# Altium integrated library ST Microcontroller 8-Bit.IntLib: 1326 symbols (part 31 of 45)
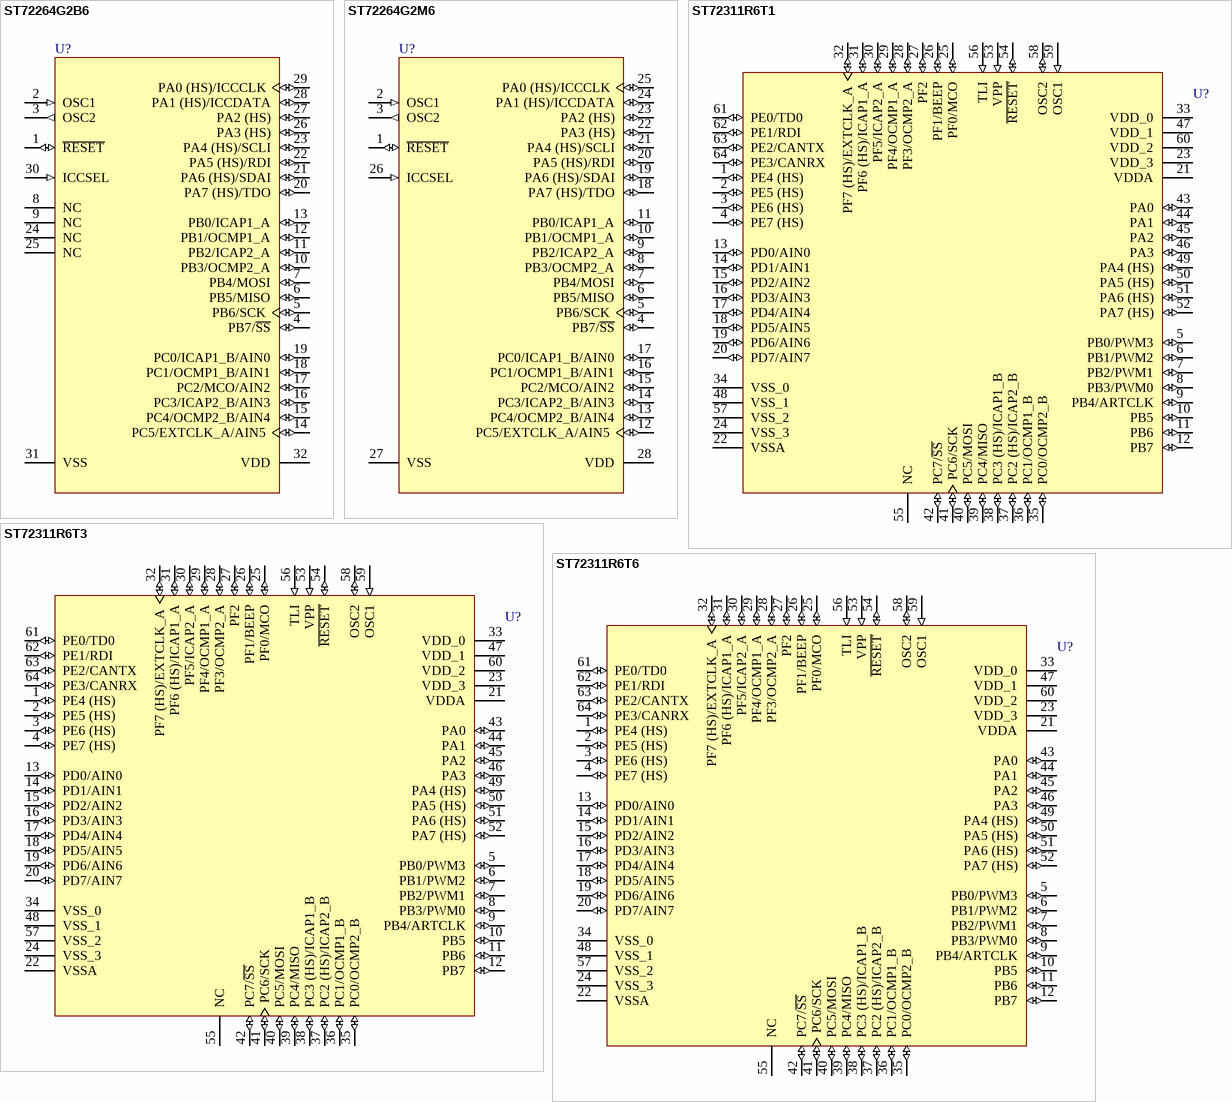
[diagram p197: symbols ST72264G2B6 to ST72311R6T6]

## ST72264G2B6
designator U?
8-Bit MCU with 8k ROM Memory, 256b RAM, ADC, 16-Bit Timers, WDG, RTC, I²C, SPI and SCI Interfaces, 32-Pin PDIP, Industrial; Published: 26-May-2004; LatestRevisionDate: 06-Jun-2005; LatestRevisionNote: Stylized 3D Model Added.; DatasheetVersion: rev1.8, Nov-2003; PackageVersion: rev1.7, Oct-2001; PackageReference: PSDIP32; Publisher: Altium Limited; PackageDescription: DIP, Plastic Shrink; 32 Leads; Row Spacing 10.16 mm; Pitch 1.78 mm; ComponentLink1Description: Manufacturer Link; ComponentLink1URL: http://www.st.com/; ComponentLink2Description: Datasheet; ComponentLink2URL: http://www.st.com/stonline/products/literature/ds/8347/st72264g.pdf
footprint PSDIP32 (DIP, Plastic Shrink; 32 Leads; Row Spacing 10.16 mm; Pitch 1.78 mm)
3D model PSDIP32 (DIP, Plastic Shrink; 32 Leads; Row Spacing 10.16 mm; Pitch 1.78 mm)
pins: 1 ~{RESET} (io), 2 OSC1 (in), 3 OSC2 (out), 4 PB7/~{SS} (io), 5 PB6/SCK (io), 6 PB5/MISO (io), 7 PB4/MOSI (io), 8 NC, 9 NC, 10 PB3/OCMP2_A (io), 11 PB2/ICAP2_A (io), 12 PB1/OCMP1_A (io), 13 PB0/ICAP1_A (io), 14 PC5/EXTCLK_A/AIN5 (io), 15 PC4/OCMP2_B/AIN4 (io), 16 PC3/ICAP2_B/AIN3 (io), 17 PC2/MCO/AIN2 (io), 18 PC1/OCMP1_B/AIN1 (io), 19 PC0/ICAP1_B/AIN0 (io), 20 PA7 (HS)/TDO (io), 21 PA6 (HS)/SDAI (io), 22 PA5 (HS)/RDI (io), 23 PA4 (HS)/SCLI (io), 24 NC, 25 NC, 26 PA3 (HS) (io), 27 PA2 (HS) (io), 28 PA1 (HS)/ICCDATA (io), 29 PA0 (HS)/ICCCLK (io), 30 ICCSEL (in), 31 VSS (power), 32 VDD (power)

## ST72264G2M6
designator U?
8-Bit MCU with 8k ROM Memory, 256b RAM, ADC, 16-Bit Timers, WDG, RTC, I²C, SPI and SCI Interfaces, 28-Pin SOIC, Industrial; Published: 26-May-2004; LatestRevisionDate: 13-Apr-2006; LatestRevisionNote: IPC-7351 Footprint Added.; DatasheetVersion: rev1.8, Nov-2003; PackageVersion: Jul-2001; PackageReference: SO28; Publisher: Altium Limited; PackageDescription: 28-Pin Plastic Small Outline Integrated Circuit 1.27 mm Pitch; ComponentLink1Description: Manufacturer Link; ComponentLink1URL: http://www.st.com/; ComponentLink2Description: Datasheet; ComponentLink2URL: http://www.st.com/stonline/products/literature/ds/8347/st72264g.pdf
footprint SO28_N (SOIC, 28-Leads, Body 17.9x7.5mm, Pitch 1.27mm, IPC Medium Density)
footprint SO28_L (SOIC, 28-Leads, Body 17.9x7.5mm, Pitch 1.27mm, IPC High Density)
footprint SO28_M (SOIC, 28-Leads, Body 17.9x7.5mm, Pitch 1.27mm, IPC Low Density)
3D model SO28 (28-Pin Plastic Small Outline Integrated Circuit 1.27 mm Pitch)
pins: 1 ~{RESET} (io), 2 OSC1 (in), 3 OSC2 (out), 4 PB7/~{SS} (io), 5 PB6/SCK (io), 6 PB5/MISO (io), 7 PB4/MOSI (io), 8 PB3/OCMP2_A (io), 9 PB2/ICAP2_A (io), 10 PB1/OCMP1_A (io), 11 PB0/ICAP1_A (io), 12 PC5/EXTCLK_A/AIN5 (io), 13 PC4/OCMP2_B/AIN4 (io), 14 PC3/ICAP2_B/AIN3 (io), 15 PC2/MCO/AIN2 (io), 16 PC1/OCMP1_B/AIN1 (io), 17 PC0/ICAP1_B/AIN0 (io), 18 PA7 (HS)/TDO (io), 19 PA6 (HS)/SDAI (io), 20 PA5 (HS)/RDI (io), 21 PA4 (HS)/SCLI (io), 22 PA3 (HS) (io), 23 PA2 (HS) (io), 24 PA1 (HS)/ICCDATA (io), 25 PA0 (HS)/ICCCLK (io), 26 ICCSEL (in), 27 VSS (power), 28 VDD (power)

## ST72311R6T1
designator U?
8-Bit 32k ROM MCU with Nested Interrupts, 1024b RAM, ADC, 16-Bit Timers, 8-Bit PWM ART, SPI and SCI Interfaces, 64-Pin TQFP, Standard; Note: Pins 5-12, 25-27 and 43-46 are External Interrupt (EI) pins.; Published: 26-May-2004; LatestRevisionDate: 13-Apr-2006; LatestRevisionNote: IPC-7351 Footprint Added.; DatasheetVersion: rev2.7, Apr-2003; PackageVersion: rev2.4, Jan-2002; PackageReference: TQFP64-0.8; Publisher: Altium Limited; PackageDescription: 64-Pin Thin Quad Flat Pack 0.8 mm Pitch; ComponentLink1Description: Manufacturer Link; ComponentLink1URL: http://www.st.com/; ComponentLink2Description: Datasheet; ComponentLink2URL: http://www.st.com/stonline/products/literature/ds/6810/st72311r6.pdf
footprint TQFP64-0.8_N (Thin QFP, 64-Leads, Body 14x14mm, Pitch 0.8mm, IPC Medium Density)
footprint TQFP64-0.8_L (Thin QFP, 64-Leads, Body 14x14mm, Pitch 0.8mm, IPC High Density)
footprint TQFP64-0.8_M (Thin QFP, 64-Leads, Body 14x14mm, Pitch 0.8mm, IPC Low Density)
3D model ST72311-TQFP64-0_8 (64-Pin Thin Quad Flat Pack 0.8 mm Pitch)
pins: 1 PE4 (HS) (io), 2 PE5 (HS) (io), 3 PE6 (HS) (io), 4 PE7 (HS) (io), 5 PB0/PWM3 (io), 6 PB1/PWM2 (io), 7 PB2/PWM1 (io), 8 PB3/PWM0 (io), 9 PB4/ARTCLK (io), 10 PB5 (io), 11 PB6 (io), 12 PB7 (io), 13 PD0/AIN0 (io), 14 PD1/AIN1 (io), 15 PD2/AIN2 (io), 16 PD3/AIN3 (io), 17 PD4/AIN4 (io), 18 PD5/AIN5 (io), 19 PD6/AIN6 (io), 20 PD7/AIN7 (io), 21 VDDA (power), 22 VSSA (power), 23 VDD_3 (power), 24 VSS_3 (power), 25 PF0/MCO (io), 26 PF1/BEEP (io), 27 PF2 (io), 28 PF3/OCMP2_A (io), 29 PF4/OCMP1_A (io), 30 PF5/ICAP2_A (io), 31 PF6 (HS)/ICAP1_A (io), 32 PF7 (HS)/EXTCLK_A (io), 33 VDD_0 (power), 34 VSS_0 (power), 35 PC0/OCMP2_B (io), 36 PC1/OCMP1_B (io), 37 PC2 (HS)/ICAP2_B (io), 38 PC3 (HS)/ICAP1_B (io), 39 PC4/MISO (io), 40 PC5/MOSI (io), 41 PC6/SCK (io), 42 PC7/~{SS} (io), 43 PA0 (io), 44 PA1 (io), 45 PA2 (io), 46 PA3 (io), 47 VDD_1 (power), 48 VSS_1 (power), 49 PA4 (HS) (io), 50 PA5 (HS) (io), 51 PA6 (HS) (io), 52 PA7 (HS) (io), 53 VPP (in), 54 ~{RESET} (io), 55 NC, 56 TLI (in), 57 VSS_2 (power), 58 OSC2 (io), 59 OSC1 (in), 60 VDD_2 (power), 61 PE0/TD0 (io), 62 PE1/RDI (io), 63 PE2/CANTX (io), 64 PE3/CANRX (io)

## ST72311R6T3
designator U?
8-Bit 32k ROM MCU with Nested Interrupts, 1024b RAM, ADC, 16-Bit Timers, 8-Bit PWM ART, SPI and SCI Interfaces, 64-Pin TQFP, Automotive; Note: Pins 5-12, 25-27 and 43-46 are External Interrupt (EI) pins.; Published: 26-May-2004; LatestRevisionDate: 13-Apr-2006; LatestRevisionNote: IPC-7351 Footprint Added.; DatasheetVersion: rev2.7, Apr-2003; PackageVersion: rev2.4, Jan-2002; PackageReference: TQFP64-0.8; Publisher: Altium Limited; PackageDescription: 64-Pin Thin Quad Flat Pack 0.8 mm Pitch; ComponentLink1Description: Manufacturer Link; ComponentLink1URL: http://www.st.com/; ComponentLink2Description: Datasheet; ComponentLink2URL: http://www.st.com/stonline/products/literature/ds/6810/st72311r6.pdf
footprint TQFP64-0.8_N (Thin QFP, 64-Leads, Body 14x14mm, Pitch 0.8mm, IPC Medium Density)
footprint TQFP64-0.8_L (Thin QFP, 64-Leads, Body 14x14mm, Pitch 0.8mm, IPC High Density)
footprint TQFP64-0.8_M (Thin QFP, 64-Leads, Body 14x14mm, Pitch 0.8mm, IPC Low Density)
3D model ST72311-TQFP64-0_8 (64-Pin Thin Quad Flat Pack 0.8 mm Pitch)
pins: 1 PE4 (HS) (io), 2 PE5 (HS) (io), 3 PE6 (HS) (io), 4 PE7 (HS) (io), 5 PB0/PWM3 (io), 6 PB1/PWM2 (io), 7 PB2/PWM1 (io), 8 PB3/PWM0 (io), 9 PB4/ARTCLK (io), 10 PB5 (io), 11 PB6 (io), 12 PB7 (io), 13 PD0/AIN0 (io), 14 PD1/AIN1 (io), 15 PD2/AIN2 (io), 16 PD3/AIN3 (io), 17 PD4/AIN4 (io), 18 PD5/AIN5 (io), 19 PD6/AIN6 (io), 20 PD7/AIN7 (io), 21 VDDA (power), 22 VSSA (power), 23 VDD_3 (power), 24 VSS_3 (power), 25 PF0/MCO (io), 26 PF1/BEEP (io), 27 PF2 (io), 28 PF3/OCMP2_A (io), 29 PF4/OCMP1_A (io), 30 PF5/ICAP2_A (io), 31 PF6 (HS)/ICAP1_A (io), 32 PF7 (HS)/EXTCLK_A (io), 33 VDD_0 (power), 34 VSS_0 (power), 35 PC0/OCMP2_B (io), 36 PC1/OCMP1_B (io), 37 PC2 (HS)/ICAP2_B (io), 38 PC3 (HS)/ICAP1_B (io), 39 PC4/MISO (io), 40 PC5/MOSI (io), 41 PC6/SCK (io), 42 PC7/~{SS} (io), 43 PA0 (io), 44 PA1 (io), 45 PA2 (io), 46 PA3 (io), 47 VDD_1 (power), 48 VSS_1 (power), 49 PA4 (HS) (io), 50 PA5 (HS) (io), 51 PA6 (HS) (io), 52 PA7 (HS) (io), 53 VPP (in), 54 ~{RESET} (io), 55 NC, 56 TLI (in), 57 VSS_2 (power), 58 OSC2 (io), 59 OSC1 (in), 60 VDD_2 (power), 61 PE0/TD0 (io), 62 PE1/RDI (io), 63 PE2/CANTX (io), 64 PE3/CANRX (io)

## ST72311R6T6
designator U?
8-Bit 32k ROM MCU with Nested Interrupts, 1024b RAM, ADC, 16-Bit Timers, 8-Bit PWM ART, SPI and SCI Interfaces, 64-Pin TQFP, Industrial; Note: Pins 5-12, 25-27 and 43-46 are External Interrupt (EI) pins.; Published: 26-May-2004; LatestRevisionDate: 13-Apr-2006; LatestRevisionNote: IPC-7351 Footprint Added.; DatasheetVersion: rev2.7, Apr-2003; PackageVersion: rev2.4, Jan-2002; PackageReference: TQFP64-0.8; Publisher: Altium Limited; PackageDescription: 64-Pin Thin Quad Flat Pack 0.8 mm Pitch; ComponentLink1Description: Manufacturer Link; ComponentLink1URL: http://www.st.com/; ComponentLink2Description: Datasheet; ComponentLink2URL: http://www.st.com/stonline/products/literature/ds/6810/st72311r6.pdf
footprint TQFP64-0.8_N (Thin QFP, 64-Leads, Body 14x14mm, Pitch 0.8mm, IPC Medium Density)
footprint TQFP64-0.8_L (Thin QFP, 64-Leads, Body 14x14mm, Pitch 0.8mm, IPC High Density)
footprint TQFP64-0.8_M (Thin QFP, 64-Leads, Body 14x14mm, Pitch 0.8mm, IPC Low Density)
3D model ST72311-TQFP64-0_8 (64-Pin Thin Quad Flat Pack 0.8 mm Pitch)
pins: 1 PE4 (HS) (io), 2 PE5 (HS) (io), 3 PE6 (HS) (io), 4 PE7 (HS) (io), 5 PB0/PWM3 (io), 6 PB1/PWM2 (io), 7 PB2/PWM1 (io), 8 PB3/PWM0 (io), 9 PB4/ARTCLK (io), 10 PB5 (io), 11 PB6 (io), 12 PB7 (io), 13 PD0/AIN0 (io), 14 PD1/AIN1 (io), 15 PD2/AIN2 (io), 16 PD3/AIN3 (io), 17 PD4/AIN4 (io), 18 PD5/AIN5 (io), 19 PD6/AIN6 (io), 20 PD7/AIN7 (io), 21 VDDA (power), 22 VSSA (power), 23 VDD_3 (power), 24 VSS_3 (power), 25 PF0/MCO (io), 26 PF1/BEEP (io), 27 PF2 (io), 28 PF3/OCMP2_A (io), 29 PF4/OCMP1_A (io), 30 PF5/ICAP2_A (io), 31 PF6 (HS)/ICAP1_A (io), 32 PF7 (HS)/EXTCLK_A (io), 33 VDD_0 (power), 34 VSS_0 (power), 35 PC0/OCMP2_B (io), 36 PC1/OCMP1_B (io), 37 PC2 (HS)/ICAP2_B (io), 38 PC3 (HS)/ICAP1_B (io), 39 PC4/MISO (io), 40 PC5/MOSI (io), 41 PC6/SCK (io), 42 PC7/~{SS} (io), 43 PA0 (io), 44 PA1 (io), 45 PA2 (io), 46 PA3 (io), 47 VDD_1 (power), 48 VSS_1 (power), 49 PA4 (HS) (io), 50 PA5 (HS) (io), 51 PA6 (HS) (io), 52 PA7 (HS) (io), 53 VPP (in), 54 ~{RESET} (io), 55 NC, 56 TLI (in), 57 VSS_2 (power), 58 OSC2 (io), 59 OSC1 (in), 60 VDD_2 (power), 61 PE0/TD0 (io), 62 PE1/RDI (io), 63 PE2/CANTX (io), 64 PE3/CANRX (io)

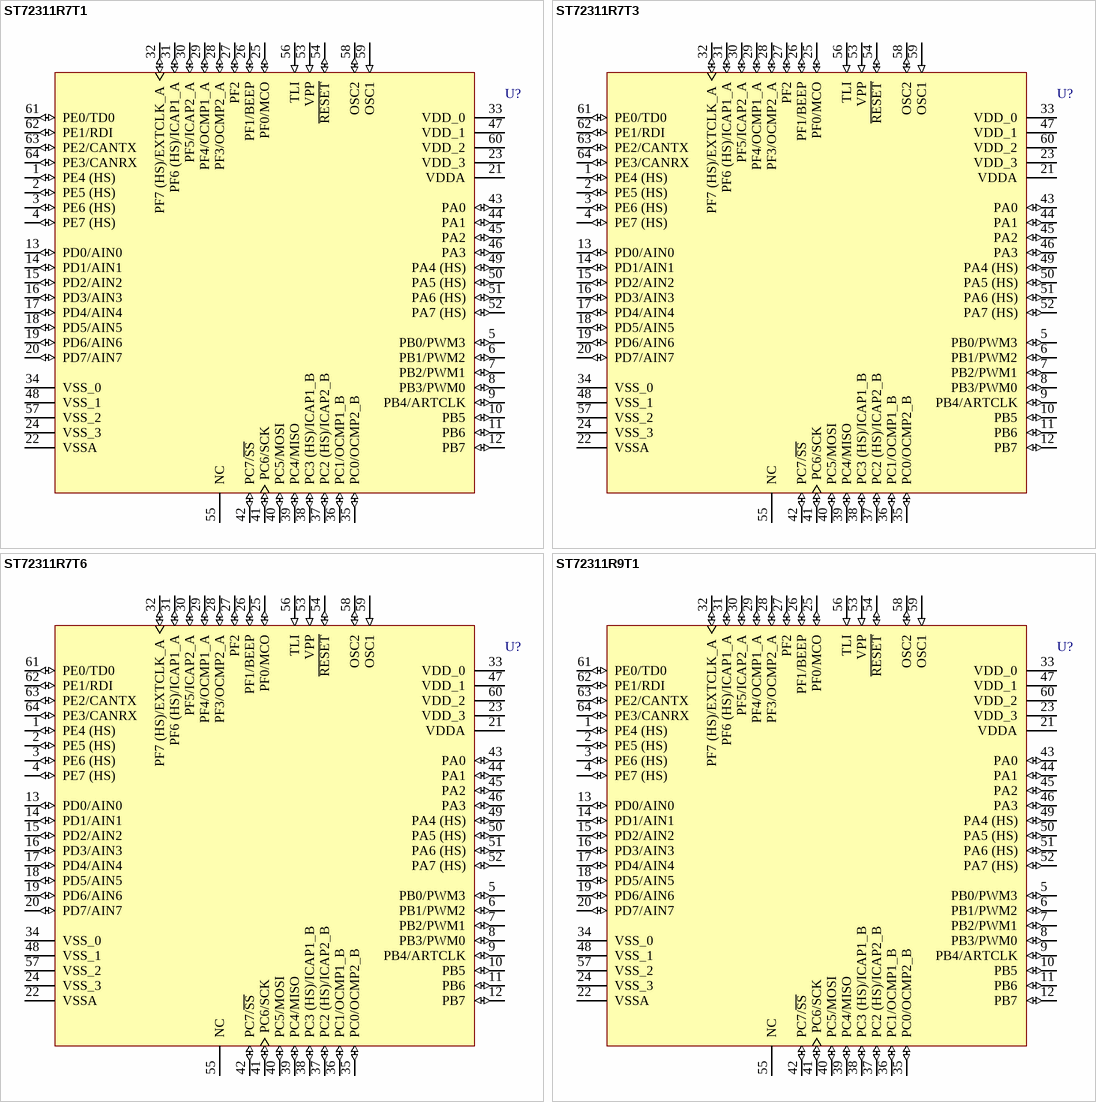
[diagram p104: symbols ST72311R7T1 to ST72311R9T1]

## ST72311R7T1
designator U?
8-Bit 48k ROM MCU with Nested Interrupts, 1536b RAM, ADC, 16-Bit Timers, 8-Bit PWM ART, SPI and SCI Interfaces, 64-Pin TQFP, Standard; Note: Pins 5-12, 25-27 and 43-46 are External Interrupt (EI) pins.; Published: 26-May-2004; LatestRevisionDate: 13-Apr-2006; LatestRevisionNote: IPC-7351 Footprint Added.; DatasheetVersion: rev2.7, Apr-2003; PackageVersion: rev2.4, Jan-2002; PackageReference: TQFP64-0.8; Publisher: Altium Limited; PackageDescription: 64-Pin Thin Quad Flat Pack 0.8 mm Pitch; ComponentLink1Description: Manufacturer Link; ComponentLink1URL: http://www.st.com/; ComponentLink2Description: Datasheet; ComponentLink2URL: http://www.st.com/stonline/products/literature/ds/6810/st72311r7.pdf
footprint TQFP64-0.8_N (Thin QFP, 64-Leads, Body 14x14mm, Pitch 0.8mm, IPC Medium Density)
footprint TQFP64-0.8_L (Thin QFP, 64-Leads, Body 14x14mm, Pitch 0.8mm, IPC High Density)
footprint TQFP64-0.8_M (Thin QFP, 64-Leads, Body 14x14mm, Pitch 0.8mm, IPC Low Density)
3D model ST72311-TQFP64-0_8 (64-Pin Thin Quad Flat Pack 0.8 mm Pitch)
pins: 1 PE4 (HS) (io), 2 PE5 (HS) (io), 3 PE6 (HS) (io), 4 PE7 (HS) (io), 5 PB0/PWM3 (io), 6 PB1/PWM2 (io), 7 PB2/PWM1 (io), 8 PB3/PWM0 (io), 9 PB4/ARTCLK (io), 10 PB5 (io), 11 PB6 (io), 12 PB7 (io), 13 PD0/AIN0 (io), 14 PD1/AIN1 (io), 15 PD2/AIN2 (io), 16 PD3/AIN3 (io), 17 PD4/AIN4 (io), 18 PD5/AIN5 (io), 19 PD6/AIN6 (io), 20 PD7/AIN7 (io), 21 VDDA (power), 22 VSSA (power), 23 VDD_3 (power), 24 VSS_3 (power), 25 PF0/MCO (io), 26 PF1/BEEP (io), 27 PF2 (io), 28 PF3/OCMP2_A (io), 29 PF4/OCMP1_A (io), 30 PF5/ICAP2_A (io), 31 PF6 (HS)/ICAP1_A (io), 32 PF7 (HS)/EXTCLK_A (io), 33 VDD_0 (power), 34 VSS_0 (power), 35 PC0/OCMP2_B (io), 36 PC1/OCMP1_B (io), 37 PC2 (HS)/ICAP2_B (io), 38 PC3 (HS)/ICAP1_B (io), 39 PC4/MISO (io), 40 PC5/MOSI (io), 41 PC6/SCK (io), 42 PC7/~{SS} (io), 43 PA0 (io), 44 PA1 (io), 45 PA2 (io), 46 PA3 (io), 47 VDD_1 (power), 48 VSS_1 (power), 49 PA4 (HS) (io), 50 PA5 (HS) (io), 51 PA6 (HS) (io), 52 PA7 (HS) (io), 53 VPP (in), 54 ~{RESET} (io), 55 NC, 56 TLI (in), 57 VSS_2 (power), 58 OSC2 (io), 59 OSC1 (in), 60 VDD_2 (power), 61 PE0/TD0 (io), 62 PE1/RDI (io), 63 PE2/CANTX (io), 64 PE3/CANRX (io)

## ST72311R7T3
designator U?
8-Bit 48k ROM MCU with Nested Interrupts, 1536b RAM, ADC, 16-Bit Timers, 8-Bit PWM ART, SPI and SCI Interfaces, 64-Pin TQFP, Automotive; Note: Pins 5-12, 25-27 and 43-46 are External Interrupt (EI) pins.; Published: 26-May-2004; LatestRevisionDate: 13-Apr-2006; LatestRevisionNote: IPC-7351 Footprint Added.; DatasheetVersion: rev2.7, Apr-2003; PackageVersion: rev2.4, Jan-2002; PackageReference: TQFP64-0.8; Publisher: Altium Limited; PackageDescription: 64-Pin Thin Quad Flat Pack 0.8 mm Pitch; ComponentLink1Description: Manufacturer Link; ComponentLink1URL: http://www.st.com/; ComponentLink2Description: Datasheet; ComponentLink2URL: http://www.st.com/stonline/products/literature/ds/6810/st72311r7.pdf
footprint TQFP64-0.8_N (Thin QFP, 64-Leads, Body 14x14mm, Pitch 0.8mm, IPC Medium Density)
footprint TQFP64-0.8_L (Thin QFP, 64-Leads, Body 14x14mm, Pitch 0.8mm, IPC High Density)
footprint TQFP64-0.8_M (Thin QFP, 64-Leads, Body 14x14mm, Pitch 0.8mm, IPC Low Density)
3D model ST72311-TQFP64-0_8 (64-Pin Thin Quad Flat Pack 0.8 mm Pitch)
pins: 1 PE4 (HS) (io), 2 PE5 (HS) (io), 3 PE6 (HS) (io), 4 PE7 (HS) (io), 5 PB0/PWM3 (io), 6 PB1/PWM2 (io), 7 PB2/PWM1 (io), 8 PB3/PWM0 (io), 9 PB4/ARTCLK (io), 10 PB5 (io), 11 PB6 (io), 12 PB7 (io), 13 PD0/AIN0 (io), 14 PD1/AIN1 (io), 15 PD2/AIN2 (io), 16 PD3/AIN3 (io), 17 PD4/AIN4 (io), 18 PD5/AIN5 (io), 19 PD6/AIN6 (io), 20 PD7/AIN7 (io), 21 VDDA (power), 22 VSSA (power), 23 VDD_3 (power), 24 VSS_3 (power), 25 PF0/MCO (io), 26 PF1/BEEP (io), 27 PF2 (io), 28 PF3/OCMP2_A (io), 29 PF4/OCMP1_A (io), 30 PF5/ICAP2_A (io), 31 PF6 (HS)/ICAP1_A (io), 32 PF7 (HS)/EXTCLK_A (io), 33 VDD_0 (power), 34 VSS_0 (power), 35 PC0/OCMP2_B (io), 36 PC1/OCMP1_B (io), 37 PC2 (HS)/ICAP2_B (io), 38 PC3 (HS)/ICAP1_B (io), 39 PC4/MISO (io), 40 PC5/MOSI (io), 41 PC6/SCK (io), 42 PC7/~{SS} (io), 43 PA0 (io), 44 PA1 (io), 45 PA2 (io), 46 PA3 (io), 47 VDD_1 (power), 48 VSS_1 (power), 49 PA4 (HS) (io), 50 PA5 (HS) (io), 51 PA6 (HS) (io), 52 PA7 (HS) (io), 53 VPP (in), 54 ~{RESET} (io), 55 NC, 56 TLI (in), 57 VSS_2 (power), 58 OSC2 (io), 59 OSC1 (in), 60 VDD_2 (power), 61 PE0/TD0 (io), 62 PE1/RDI (io), 63 PE2/CANTX (io), 64 PE3/CANRX (io)

## ST72311R7T6
designator U?
8-Bit 48k ROM MCU with Nested Interrupts, 1536b RAM, ADC, 16-Bit Timers, 8-Bit PWM ART, SPI and SCI Interfaces, 64-Pin TQFP, Industrial; Note: Pins 5-12, 25-27 and 43-46 are External Interrupt (EI) pins.; Published: 26-May-2004; LatestRevisionDate: 13-Apr-2006; LatestRevisionNote: IPC-7351 Footprint Added.; DatasheetVersion: rev2.7, Apr-2003; PackageVersion: rev2.4, Jan-2002; PackageReference: TQFP64-0.8; Publisher: Altium Limited; PackageDescription: 64-Pin Thin Quad Flat Pack 0.8 mm Pitch; ComponentLink1Description: Manufacturer Link; ComponentLink1URL: http://www.st.com/; ComponentLink2Description: Datasheet; ComponentLink2URL: http://www.st.com/stonline/products/literature/ds/6810/st72311r7.pdf
footprint TQFP64-0.8_N (Thin QFP, 64-Leads, Body 14x14mm, Pitch 0.8mm, IPC Medium Density)
footprint TQFP64-0.8_L (Thin QFP, 64-Leads, Body 14x14mm, Pitch 0.8mm, IPC High Density)
footprint TQFP64-0.8_M (Thin QFP, 64-Leads, Body 14x14mm, Pitch 0.8mm, IPC Low Density)
3D model ST72311-TQFP64-0_8 (64-Pin Thin Quad Flat Pack 0.8 mm Pitch)
pins: 1 PE4 (HS) (io), 2 PE5 (HS) (io), 3 PE6 (HS) (io), 4 PE7 (HS) (io), 5 PB0/PWM3 (io), 6 PB1/PWM2 (io), 7 PB2/PWM1 (io), 8 PB3/PWM0 (io), 9 PB4/ARTCLK (io), 10 PB5 (io), 11 PB6 (io), 12 PB7 (io), 13 PD0/AIN0 (io), 14 PD1/AIN1 (io), 15 PD2/AIN2 (io), 16 PD3/AIN3 (io), 17 PD4/AIN4 (io), 18 PD5/AIN5 (io), 19 PD6/AIN6 (io), 20 PD7/AIN7 (io), 21 VDDA (power), 22 VSSA (power), 23 VDD_3 (power), 24 VSS_3 (power), 25 PF0/MCO (io), 26 PF1/BEEP (io), 27 PF2 (io), 28 PF3/OCMP2_A (io), 29 PF4/OCMP1_A (io), 30 PF5/ICAP2_A (io), 31 PF6 (HS)/ICAP1_A (io), 32 PF7 (HS)/EXTCLK_A (io), 33 VDD_0 (power), 34 VSS_0 (power), 35 PC0/OCMP2_B (io), 36 PC1/OCMP1_B (io), 37 PC2 (HS)/ICAP2_B (io), 38 PC3 (HS)/ICAP1_B (io), 39 PC4/MISO (io), 40 PC5/MOSI (io), 41 PC6/SCK (io), 42 PC7/~{SS} (io), 43 PA0 (io), 44 PA1 (io), 45 PA2 (io), 46 PA3 (io), 47 VDD_1 (power), 48 VSS_1 (power), 49 PA4 (HS) (io), 50 PA5 (HS) (io), 51 PA6 (HS) (io), 52 PA7 (HS) (io), 53 VPP (in), 54 ~{RESET} (io), 55 NC, 56 TLI (in), 57 VSS_2 (power), 58 OSC2 (io), 59 OSC1 (in), 60 VDD_2 (power), 61 PE0/TD0 (io), 62 PE1/RDI (io), 63 PE2/CANTX (io), 64 PE3/CANRX (io)

## ST72311R9T1
designator U?
8-Bit 60k ROM MCU with Nested Interrupts, 2048b RAM, ADC, 16-Bit Timers, 8-Bit PWM ART, SPI and SCI Interfaces, 64-Pin TQFP, Standard; Note: Pins 5-12, 25-27 and 43-46 are External Interrupt (EI) pins.; Published: 26-May-2004; LatestRevisionDate: 13-Apr-2006; LatestRevisionNote: IPC-7351 Footprint Added.; DatasheetVersion: rev2.7, Apr-2003; PackageVersion: rev2.4, Jan-2002; PackageReference: TQFP64-0.8; Publisher: Altium Limited; PackageDescription: 64-Pin Thin Quad Flat Pack 0.8 mm Pitch; ComponentLink1Description: Manufacturer Link; ComponentLink1URL: http://www.st.com/; ComponentLink2Description: Datasheet; ComponentLink2URL: http://www.st.com/stonline/products/literature/ds/6810/st72311r9.pdf
footprint TQFP64-0.8_N (Thin QFP, 64-Leads, Body 14x14mm, Pitch 0.8mm, IPC Medium Density)
footprint TQFP64-0.8_L (Thin QFP, 64-Leads, Body 14x14mm, Pitch 0.8mm, IPC High Density)
footprint TQFP64-0.8_M (Thin QFP, 64-Leads, Body 14x14mm, Pitch 0.8mm, IPC Low Density)
3D model ST72311-TQFP64-0_8 (64-Pin Thin Quad Flat Pack 0.8 mm Pitch)
pins: 1 PE4 (HS) (io), 2 PE5 (HS) (io), 3 PE6 (HS) (io), 4 PE7 (HS) (io), 5 PB0/PWM3 (io), 6 PB1/PWM2 (io), 7 PB2/PWM1 (io), 8 PB3/PWM0 (io), 9 PB4/ARTCLK (io), 10 PB5 (io), 11 PB6 (io), 12 PB7 (io), 13 PD0/AIN0 (io), 14 PD1/AIN1 (io), 15 PD2/AIN2 (io), 16 PD3/AIN3 (io), 17 PD4/AIN4 (io), 18 PD5/AIN5 (io), 19 PD6/AIN6 (io), 20 PD7/AIN7 (io), 21 VDDA (power), 22 VSSA (power), 23 VDD_3 (power), 24 VSS_3 (power), 25 PF0/MCO (io), 26 PF1/BEEP (io), 27 PF2 (io), 28 PF3/OCMP2_A (io), 29 PF4/OCMP1_A (io), 30 PF5/ICAP2_A (io), 31 PF6 (HS)/ICAP1_A (io), 32 PF7 (HS)/EXTCLK_A (io), 33 VDD_0 (power), 34 VSS_0 (power), 35 PC0/OCMP2_B (io), 36 PC1/OCMP1_B (io), 37 PC2 (HS)/ICAP2_B (io), 38 PC3 (HS)/ICAP1_B (io), 39 PC4/MISO (io), 40 PC5/MOSI (io), 41 PC6/SCK (io), 42 PC7/~{SS} (io), 43 PA0 (io), 44 PA1 (io), 45 PA2 (io), 46 PA3 (io), 47 VDD_1 (power), 48 VSS_1 (power), 49 PA4 (HS) (io), 50 PA5 (HS) (io), 51 PA6 (HS) (io), 52 PA7 (HS) (io), 53 VPP (in), 54 ~{RESET} (io), 55 NC, 56 TLI (in), 57 VSS_2 (power), 58 OSC2 (io), 59 OSC1 (in), 60 VDD_2 (power), 61 PE0/TD0 (io), 62 PE1/RDI (io), 63 PE2/CANTX (io), 64 PE3/CANRX (io)

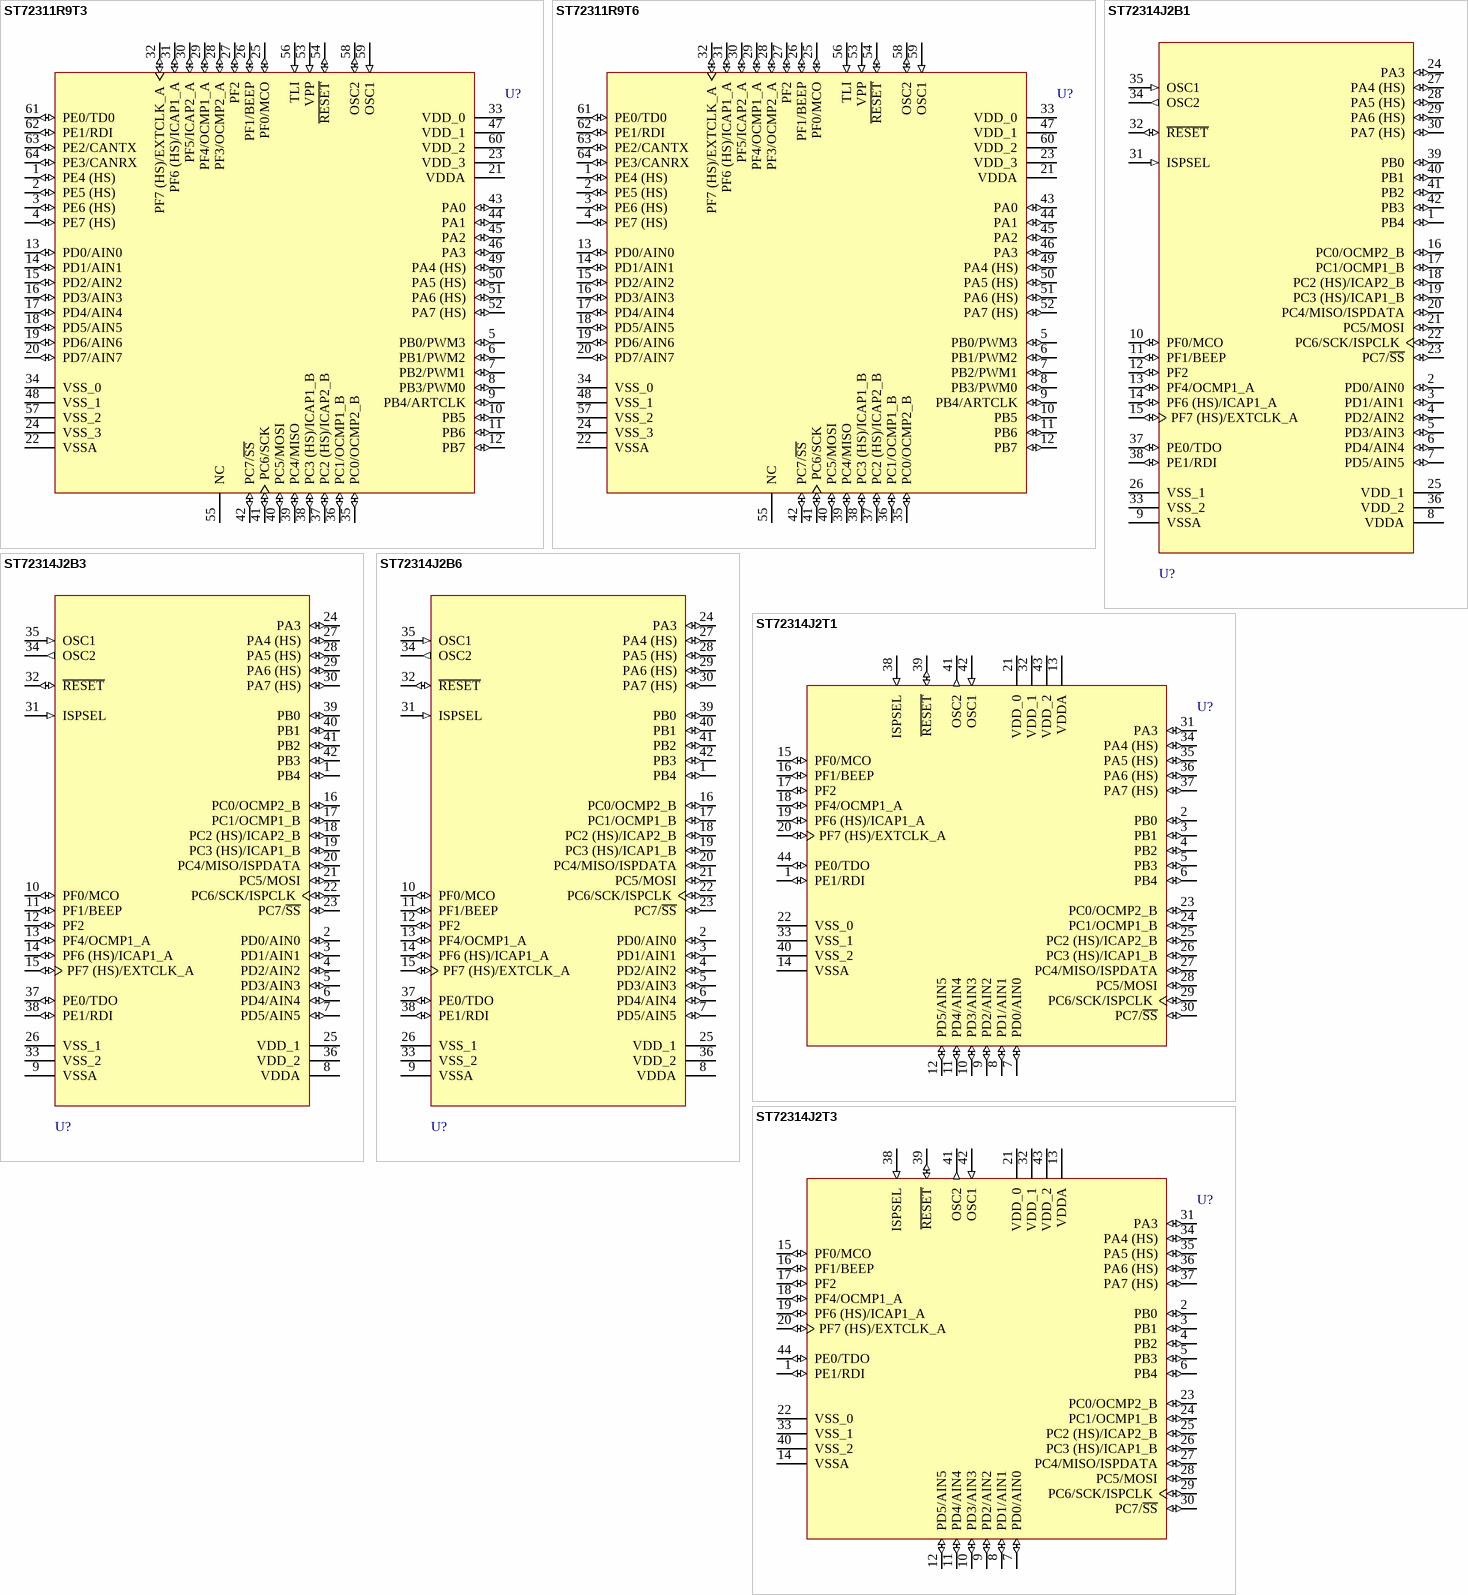
[diagram p105: symbols ST72311R9T3 to ST72314J2T3]

## ST72311R9T3
designator U?
8-Bit 60k ROM MCU with Nested Interrupts, 2048b RAM, ADC, 16-Bit Timers, 8-Bit PWM ART, SPI and SCI Interfaces, 64-Pin TQFP, Automotive; Note: Pins 5-12, 25-27 and 43-46 are External Interrupt (EI) pins.; Published: 26-May-2004; LatestRevisionDate: 13-Apr-2006; LatestRevisionNote: IPC-7351 Footprint Added.; DatasheetVersion: rev2.7, Apr-2003; PackageVersion: rev2.4, Jan-2002; PackageReference: TQFP64-0.8; Publisher: Altium Limited; PackageDescription: 64-Pin Thin Quad Flat Pack 0.8 mm Pitch; ComponentLink1Description: Manufacturer Link; ComponentLink1URL: http://www.st.com/; ComponentLink2Description: Datasheet; ComponentLink2URL: http://www.st.com/stonline/products/literature/ds/6810/st72311r9.pdf
footprint TQFP64-0.8_N (Thin QFP, 64-Leads, Body 14x14mm, Pitch 0.8mm, IPC Medium Density)
footprint TQFP64-0.8_L (Thin QFP, 64-Leads, Body 14x14mm, Pitch 0.8mm, IPC High Density)
footprint TQFP64-0.8_M (Thin QFP, 64-Leads, Body 14x14mm, Pitch 0.8mm, IPC Low Density)
3D model ST72311-TQFP64-0_8 (64-Pin Thin Quad Flat Pack 0.8 mm Pitch)
pins: 1 PE4 (HS) (io), 2 PE5 (HS) (io), 3 PE6 (HS) (io), 4 PE7 (HS) (io), 5 PB0/PWM3 (io), 6 PB1/PWM2 (io), 7 PB2/PWM1 (io), 8 PB3/PWM0 (io), 9 PB4/ARTCLK (io), 10 PB5 (io), 11 PB6 (io), 12 PB7 (io), 13 PD0/AIN0 (io), 14 PD1/AIN1 (io), 15 PD2/AIN2 (io), 16 PD3/AIN3 (io), 17 PD4/AIN4 (io), 18 PD5/AIN5 (io), 19 PD6/AIN6 (io), 20 PD7/AIN7 (io), 21 VDDA (power), 22 VSSA (power), 23 VDD_3 (power), 24 VSS_3 (power), 25 PF0/MCO (io), 26 PF1/BEEP (io), 27 PF2 (io), 28 PF3/OCMP2_A (io), 29 PF4/OCMP1_A (io), 30 PF5/ICAP2_A (io), 31 PF6 (HS)/ICAP1_A (io), 32 PF7 (HS)/EXTCLK_A (io), 33 VDD_0 (power), 34 VSS_0 (power), 35 PC0/OCMP2_B (io), 36 PC1/OCMP1_B (io), 37 PC2 (HS)/ICAP2_B (io), 38 PC3 (HS)/ICAP1_B (io), 39 PC4/MISO (io), 40 PC5/MOSI (io), 41 PC6/SCK (io), 42 PC7/~{SS} (io), 43 PA0 (io), 44 PA1 (io), 45 PA2 (io), 46 PA3 (io), 47 VDD_1 (power), 48 VSS_1 (power), 49 PA4 (HS) (io), 50 PA5 (HS) (io), 51 PA6 (HS) (io), 52 PA7 (HS) (io), 53 VPP (in), 54 ~{RESET} (io), 55 NC, 56 TLI (in), 57 VSS_2 (power), 58 OSC2 (io), 59 OSC1 (in), 60 VDD_2 (power), 61 PE0/TD0 (io), 62 PE1/RDI (io), 63 PE2/CANTX (io), 64 PE3/CANRX (io)

## ST72311R9T6
designator U?
8-Bit 60k ROM MCU with Nested Interrupts, 2048b RAM, ADC, 16-Bit Timers, 8-Bit PWM ART, SPI and SCI Interfaces, 64-Pin TQFP, Industrial; Note: Pins 5-12, 25-27 and 43-46 are External Interrupt (EI) pins.; Published: 26-May-2004; LatestRevisionDate: 13-Apr-2006; LatestRevisionNote: IPC-7351 Footprint Added.; DatasheetVersion: rev2.7, Apr-2003; PackageVersion: rev2.4, Jan-2002; PackageReference: TQFP64-0.8; Publisher: Altium Limited; PackageDescription: 64-Pin Thin Quad Flat Pack 0.8 mm Pitch; ComponentLink1Description: Manufacturer Link; ComponentLink1URL: http://www.st.com/; ComponentLink2Description: Datasheet; ComponentLink2URL: http://www.st.com/stonline/products/literature/ds/6810/st72311r9.pdf
footprint TQFP64-0.8_N (Thin QFP, 64-Leads, Body 14x14mm, Pitch 0.8mm, IPC Medium Density)
footprint TQFP64-0.8_L (Thin QFP, 64-Leads, Body 14x14mm, Pitch 0.8mm, IPC High Density)
footprint TQFP64-0.8_M (Thin QFP, 64-Leads, Body 14x14mm, Pitch 0.8mm, IPC Low Density)
3D model ST72311-TQFP64-0_8 (64-Pin Thin Quad Flat Pack 0.8 mm Pitch)
pins: 1 PE4 (HS) (io), 2 PE5 (HS) (io), 3 PE6 (HS) (io), 4 PE7 (HS) (io), 5 PB0/PWM3 (io), 6 PB1/PWM2 (io), 7 PB2/PWM1 (io), 8 PB3/PWM0 (io), 9 PB4/ARTCLK (io), 10 PB5 (io), 11 PB6 (io), 12 PB7 (io), 13 PD0/AIN0 (io), 14 PD1/AIN1 (io), 15 PD2/AIN2 (io), 16 PD3/AIN3 (io), 17 PD4/AIN4 (io), 18 PD5/AIN5 (io), 19 PD6/AIN6 (io), 20 PD7/AIN7 (io), 21 VDDA (power), 22 VSSA (power), 23 VDD_3 (power), 24 VSS_3 (power), 25 PF0/MCO (io), 26 PF1/BEEP (io), 27 PF2 (io), 28 PF3/OCMP2_A (io), 29 PF4/OCMP1_A (io), 30 PF5/ICAP2_A (io), 31 PF6 (HS)/ICAP1_A (io), 32 PF7 (HS)/EXTCLK_A (io), 33 VDD_0 (power), 34 VSS_0 (power), 35 PC0/OCMP2_B (io), 36 PC1/OCMP1_B (io), 37 PC2 (HS)/ICAP2_B (io), 38 PC3 (HS)/ICAP1_B (io), 39 PC4/MISO (io), 40 PC5/MOSI (io), 41 PC6/SCK (io), 42 PC7/~{SS} (io), 43 PA0 (io), 44 PA1 (io), 45 PA2 (io), 46 PA3 (io), 47 VDD_1 (power), 48 VSS_1 (power), 49 PA4 (HS) (io), 50 PA5 (HS) (io), 51 PA6 (HS) (io), 52 PA7 (HS) (io), 53 VPP (in), 54 ~{RESET} (io), 55 NC, 56 TLI (in), 57 VSS_2 (power), 58 OSC2 (io), 59 OSC1 (in), 60 VDD_2 (power), 61 PE0/TD0 (io), 62 PE1/RDI (io), 63 PE2/CANTX (io), 64 PE3/CANRX (io)

## ST72314J2B1
designator U?
8-Bit MCU with 8k ROM, 384b RAM, ADC, 16-Bit Timers, SPI and SCI Interface, 42-Pin PDIP, Standard; Note: Pins 1, 10-12, 24 and 39-42 are External Interrupt (EI) pins.; Published: 26-May-2004; LatestRevisionDate: 06-Jun-2005; LatestRevisionNote: Stylized 3D Model Added.; DatasheetVersion: rev2.5, Apr-2003; PackageVersion: Oct-2003; PackageReference: PSDIP42; Publisher: Altium Limited; PackageDescription: DIP, Plastic Shrink; 42 Leads; Row Spacing 15.24 mm; Pitch 1.78 mm; ComponentLink1Description: Manufacturer Link; ComponentLink1URL: http://www.st.com/; ComponentLink2Description: Datasheet; ComponentLink2URL: http://www.st.com/stonline/products/literature/ds/6816/st72314j2.pdf
footprint PSDIP42 (DIP, Plastic Shrink; 42 Leads; Row Spacing 15.24 mm; Pitch 1.78 mm)
3D model PSDIP42 (DIP, Plastic Shrink; 42 Leads; Row Spacing 15.24 mm; Pitch 1.78 mm)
pins: 1 PB4 (io), 2 PD0/AIN0 (io), 3 PD1/AIN1 (io), 4 PD2/AIN2 (io), 5 PD3/AIN3 (io), 6 PD4/AIN4 (io), 7 PD5/AIN5 (io), 8 VDDA (power), 9 VSSA (power), 10 PF0/MCO (io), 11 PF1/BEEP (io), 12 PF2 (io), 13 PF4/OCMP1_A (io), 14 PF6 (HS)/ICAP1_A (io), 15 PF7 (HS)/EXTCLK_A (io), 16 PC0/OCMP2_B (io), 17 PC1/OCMP1_B (io), 18 PC2 (HS)/ICAP2_B (io), 19 PC3 (HS)/ICAP1_B (io), 20 PC4/MISO/ISPDATA (io), 21 PC5/MOSI (io), 22 PC6/SCK/ISPCLK (io), 23 PC7/~{SS} (io), 24 PA3 (io), 25 VDD_1 (power), 26 VSS_1 (power), 27 PA4 (HS) (io), 28 PA5 (HS) (io), 29 PA6 (HS) (io), 30 PA7 (HS) (io), 31 ISPSEL (in), 32 ~{RESET} (io), 33 VSS_2 (power), 34 OSC2 (out), 35 OSC1 (in), 36 VDD_2 (power), 37 PE0/TDO (io), 38 PE1/RDI (io), 39 PB0 (io), 40 PB1 (io), 41 PB2 (io), 42 PB3 (io)

## ST72314J2B3
designator U?
8-Bit MCU with 8k ROM, 384b RAM, ADC, 16-Bit Timers, SPI and SCI Interface, 42-Pin PDIP, Automotive; Note: Pins 1, 10-12, 24 and 39-42 are External Interrupt (EI) pins.; Published: 26-May-2004; LatestRevisionDate: 06-Jun-2005; LatestRevisionNote: Stylized 3D Model Added.; DatasheetVersion: rev2.5, Apr-2003; PackageVersion: Oct-2003; PackageReference: PSDIP42; Publisher: Altium Limited; PackageDescription: DIP, Plastic Shrink; 42 Leads; Row Spacing 15.24 mm; Pitch 1.78 mm; ComponentLink1Description: Manufacturer Link; ComponentLink1URL: http://www.st.com/; ComponentLink2Description: Datasheet; ComponentLink2URL: http://www.st.com/stonline/products/literature/ds/6816/st72314j2.pdf
footprint PSDIP42 (DIP, Plastic Shrink; 42 Leads; Row Spacing 15.24 mm; Pitch 1.78 mm)
3D model PSDIP42 (DIP, Plastic Shrink; 42 Leads; Row Spacing 15.24 mm; Pitch 1.78 mm)
pins: 1 PB4 (io), 2 PD0/AIN0 (io), 3 PD1/AIN1 (io), 4 PD2/AIN2 (io), 5 PD3/AIN3 (io), 6 PD4/AIN4 (io), 7 PD5/AIN5 (io), 8 VDDA (power), 9 VSSA (power), 10 PF0/MCO (io), 11 PF1/BEEP (io), 12 PF2 (io), 13 PF4/OCMP1_A (io), 14 PF6 (HS)/ICAP1_A (io), 15 PF7 (HS)/EXTCLK_A (io), 16 PC0/OCMP2_B (io), 17 PC1/OCMP1_B (io), 18 PC2 (HS)/ICAP2_B (io), 19 PC3 (HS)/ICAP1_B (io), 20 PC4/MISO/ISPDATA (io), 21 PC5/MOSI (io), 22 PC6/SCK/ISPCLK (io), 23 PC7/~{SS} (io), 24 PA3 (io), 25 VDD_1 (power), 26 VSS_1 (power), 27 PA4 (HS) (io), 28 PA5 (HS) (io), 29 PA6 (HS) (io), 30 PA7 (HS) (io), 31 ISPSEL (in), 32 ~{RESET} (io), 33 VSS_2 (power), 34 OSC2 (out), 35 OSC1 (in), 36 VDD_2 (power), 37 PE0/TDO (io), 38 PE1/RDI (io), 39 PB0 (io), 40 PB1 (io), 41 PB2 (io), 42 PB3 (io)

## ST72314J2B6
designator U?
8-Bit MCU with 8k ROM, 384b RAM, ADC, 16-Bit Timers, SPI and SCI Interface, 42-Pin PDIP, Industrial; Note: Pins 1, 10-12, 24 and 39-42 are External Interrupt (EI) pins.; Published: 26-May-2004; LatestRevisionDate: 06-Jun-2005; LatestRevisionNote: Stylized 3D Model Added.; DatasheetVersion: rev2.5, Apr-2003; PackageVersion: Oct-2003; PackageReference: PSDIP42; Publisher: Altium Limited; PackageDescription: DIP, Plastic Shrink; 42 Leads; Row Spacing 15.24 mm; Pitch 1.78 mm; ComponentLink1Description: Manufacturer Link; ComponentLink1URL: http://www.st.com/; ComponentLink2Description: Datasheet; ComponentLink2URL: http://www.st.com/stonline/products/literature/ds/6816/st72314j2.pdf
footprint PSDIP42 (DIP, Plastic Shrink; 42 Leads; Row Spacing 15.24 mm; Pitch 1.78 mm)
3D model PSDIP42 (DIP, Plastic Shrink; 42 Leads; Row Spacing 15.24 mm; Pitch 1.78 mm)
pins: 1 PB4 (io), 2 PD0/AIN0 (io), 3 PD1/AIN1 (io), 4 PD2/AIN2 (io), 5 PD3/AIN3 (io), 6 PD4/AIN4 (io), 7 PD5/AIN5 (io), 8 VDDA (power), 9 VSSA (power), 10 PF0/MCO (io), 11 PF1/BEEP (io), 12 PF2 (io), 13 PF4/OCMP1_A (io), 14 PF6 (HS)/ICAP1_A (io), 15 PF7 (HS)/EXTCLK_A (io), 16 PC0/OCMP2_B (io), 17 PC1/OCMP1_B (io), 18 PC2 (HS)/ICAP2_B (io), 19 PC3 (HS)/ICAP1_B (io), 20 PC4/MISO/ISPDATA (io), 21 PC5/MOSI (io), 22 PC6/SCK/ISPCLK (io), 23 PC7/~{SS} (io), 24 PA3 (io), 25 VDD_1 (power), 26 VSS_1 (power), 27 PA4 (HS) (io), 28 PA5 (HS) (io), 29 PA6 (HS) (io), 30 PA7 (HS) (io), 31 ISPSEL (in), 32 ~{RESET} (io), 33 VSS_2 (power), 34 OSC2 (out), 35 OSC1 (in), 36 VDD_2 (power), 37 PE0/TDO (io), 38 PE1/RDI (io), 39 PB0 (io), 40 PB1 (io), 41 PB2 (io), 42 PB3 (io)

## ST72314J2T1
designator U?
8-Bit MCU with 8k ROM, 384b RAM, ADC, 16-Bit Timers, SPI and SCI Interface, 44-Pin TQFP, Standard; Note: Pins 2-6, 15-17 and 31 are External Interrupt (EI) pins.; Published: 26-May-2004; LatestRevisionDate: 13-Apr-2006; LatestRevisionNote: IPC-7351 Footprint Added.; DatasheetVersion: rev2.5, Apr-2003; PackageVersion: Oct-2003; PackageReference: TQFP44; Publisher: Altium Limited; PackageDescription: 44-Pin Thin Plastic Quad Flat Pack 0.8 mm Pitch; ComponentLink1Description: Manufacturer Link; ComponentLink1URL: http://www.st.com/; ComponentLink2Description: Datasheet; ComponentLink2URL: http://www.st.com/stonline/products/literature/ds/6816/st72314j2.pdf
footprint TQFP44_N (Thin QFP, 44-Leads, Body 10x10mm, Pitch 0.8mm, IPC Medium Density)
footprint TQFP44_L (Thin QFP, 44-Leads, Body 10x10mm, Pitch 0.8mm, IPC High Density)
footprint TQFP44_M (Thin QFP, 44-Leads, Body 10x10mm, Pitch 0.8mm, IPC Low Density)
3D model ST72314-TQFP44 (44-Pin Thin Plastic Quad Flat Pack 0.8 mm Pitch)
pins: 1 PE1/RDI (io), 2 PB0 (io), 3 PB1 (io), 4 PB2 (io), 5 PB3 (io), 6 PB4 (io), 7 PD0/AIN0 (io), 8 PD1/AIN1 (io), 9 PD2/AIN2 (io), 10 PD3/AIN3 (io), 11 PD4/AIN4 (io), 12 PD5/AIN5 (io), 13 VDDA (power), 14 VSSA (power), 15 PF0/MCO (io), 16 PF1/BEEP (io), 17 PF2 (io), 18 PF4/OCMP1_A (io), 19 PF6 (HS)/ICAP1_A (io), 20 PF7 (HS)/EXTCLK_A (io), 21 VDD_0 (power), 22 VSS_0 (power), 23 PC0/OCMP2_B (io), 24 PC1/OCMP1_B (io), 25 PC2 (HS)/ICAP2_B (io), 26 PC3 (HS)/ICAP1_B (io), 27 PC4/MISO/ISPDATA (io), 28 PC5/MOSI (io), 29 PC6/SCK/ISPCLK (io), 30 PC7/~{SS} (io), 31 PA3 (io), 32 VDD_1 (power), 33 VSS_1 (power), 34 PA4 (HS) (io), 35 PA5 (HS) (io), 36 PA6 (HS) (io), 37 PA7 (HS) (io), 38 ISPSEL (in), 39 ~{RESET} (io), 40 VSS_2 (power), 41 OSC2 (out), 42 OSC1 (in), 43 VDD_2 (power), 44 PE0/TDO (io)

## ST72314J2T3
designator U?
8-Bit MCU with 8k ROM, 384b RAM, ADC, 16-Bit Timers, SPI and SCI Interface, 44-Pin TQFP, Automotive; Note: Pins 2-6, 15-17 and 31 are External Interrupt (EI) pins.; Published: 26-May-2004; LatestRevisionDate: 13-Apr-2006; LatestRevisionNote: IPC-7351 Footprint Added.; DatasheetVersion: rev2.5, Apr-2003; PackageVersion: Oct-2003; PackageReference: TQFP44; Publisher: Altium Limited; PackageDescription: 44-Pin Thin Plastic Quad Flat Pack 0.8 mm Pitch; ComponentLink1Description: Manufacturer Link; ComponentLink1URL: http://www.st.com/; ComponentLink2Description: Datasheet; ComponentLink2URL: http://www.st.com/stonline/products/literature/ds/6816/st72314j2.pdf
footprint TQFP44_N (Thin QFP, 44-Leads, Body 10x10mm, Pitch 0.8mm, IPC Medium Density)
footprint TQFP44_L (Thin QFP, 44-Leads, Body 10x10mm, Pitch 0.8mm, IPC High Density)
footprint TQFP44_M (Thin QFP, 44-Leads, Body 10x10mm, Pitch 0.8mm, IPC Low Density)
3D model ST72314-TQFP44 (44-Pin Thin Plastic Quad Flat Pack 0.8 mm Pitch)
pins: 1 PE1/RDI (io), 2 PB0 (io), 3 PB1 (io), 4 PB2 (io), 5 PB3 (io), 6 PB4 (io), 7 PD0/AIN0 (io), 8 PD1/AIN1 (io), 9 PD2/AIN2 (io), 10 PD3/AIN3 (io), 11 PD4/AIN4 (io), 12 PD5/AIN5 (io), 13 VDDA (power), 14 VSSA (power), 15 PF0/MCO (io), 16 PF1/BEEP (io), 17 PF2 (io), 18 PF4/OCMP1_A (io), 19 PF6 (HS)/ICAP1_A (io), 20 PF7 (HS)/EXTCLK_A (io), 21 VDD_0 (power), 22 VSS_0 (power), 23 PC0/OCMP2_B (io), 24 PC1/OCMP1_B (io), 25 PC2 (HS)/ICAP2_B (io), 26 PC3 (HS)/ICAP1_B (io), 27 PC4/MISO/ISPDATA (io), 28 PC5/MOSI (io), 29 PC6/SCK/ISPCLK (io), 30 PC7/~{SS} (io), 31 PA3 (io), 32 VDD_1 (power), 33 VSS_1 (power), 34 PA4 (HS) (io), 35 PA5 (HS) (io), 36 PA6 (HS) (io), 37 PA7 (HS) (io), 38 ISPSEL (in), 39 ~{RESET} (io), 40 VSS_2 (power), 41 OSC2 (out), 42 OSC1 (in), 43 VDD_2 (power), 44 PE0/TDO (io)

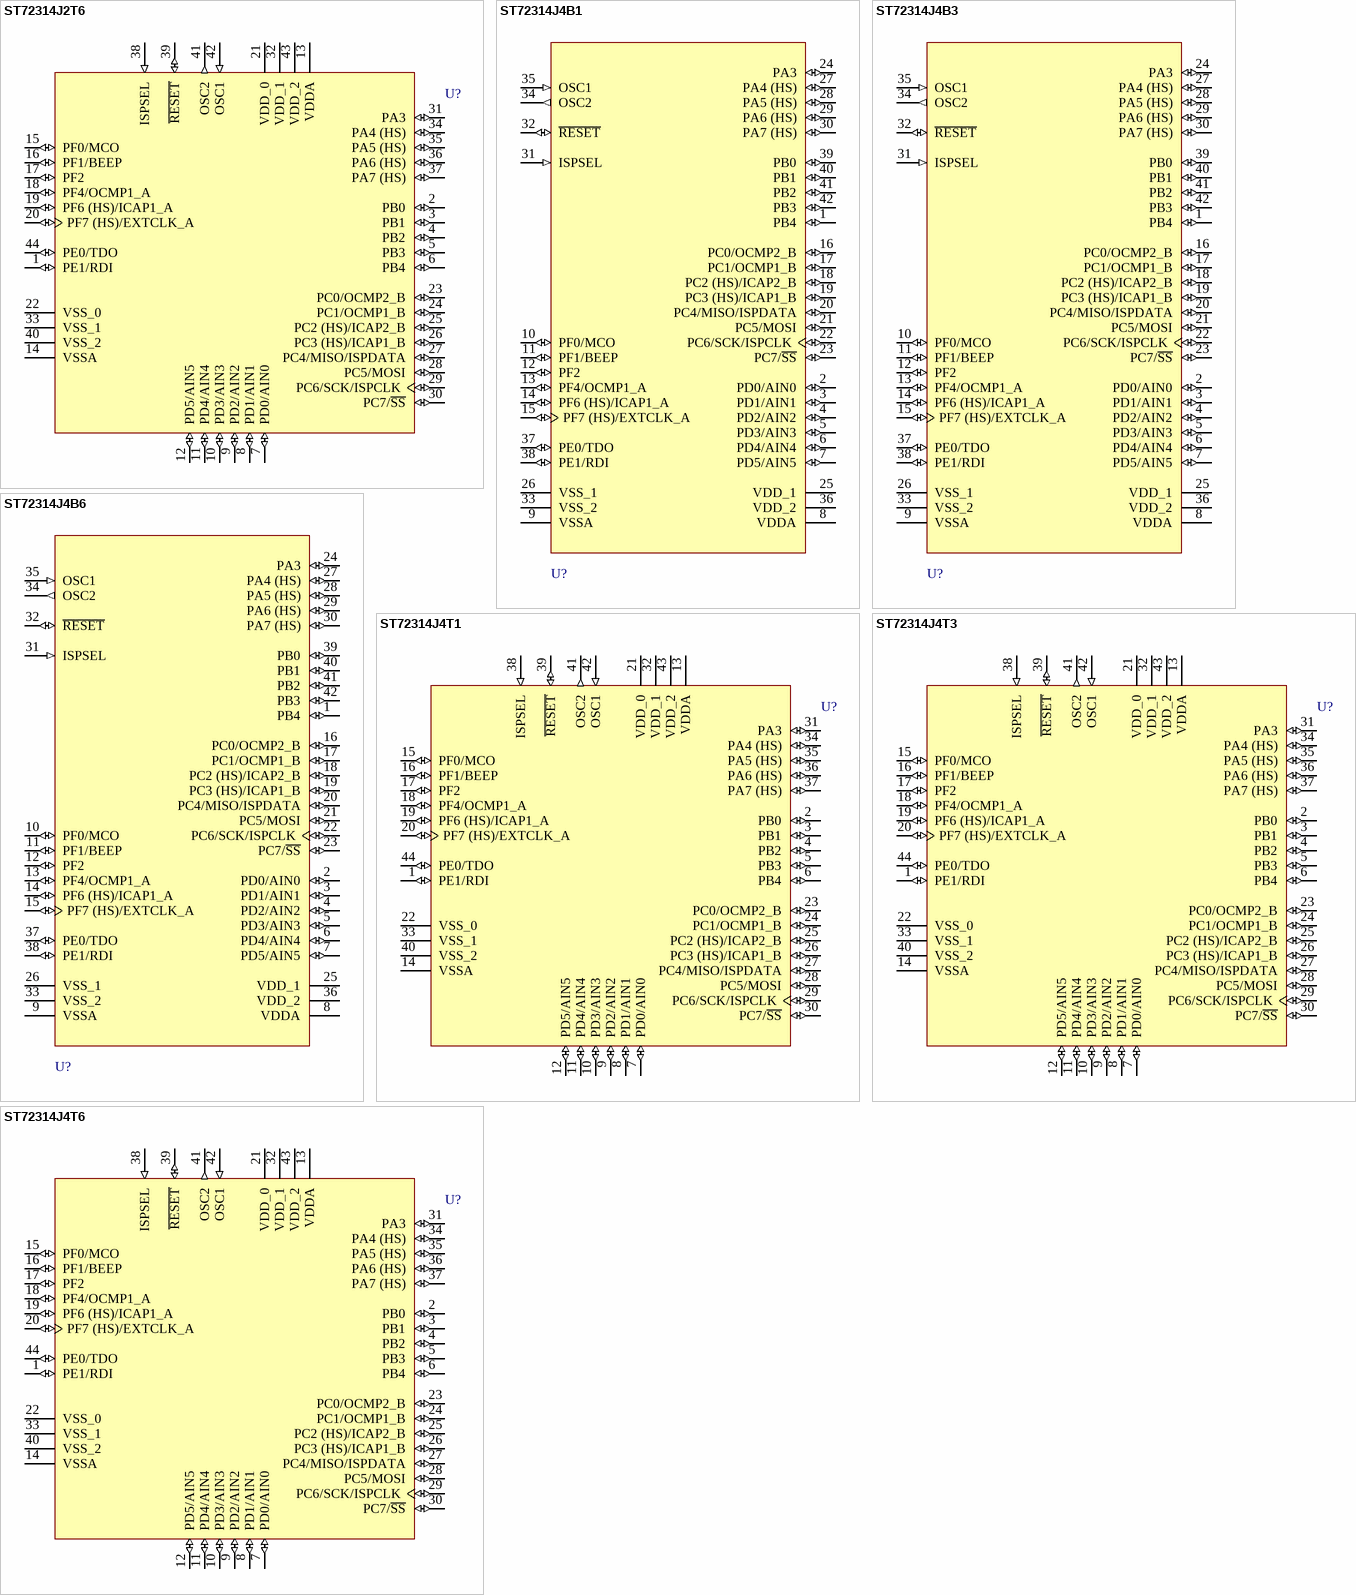
[diagram p106: symbols ST72314J2T6 to ST72314J4T6]

## ST72314J2T6
designator U?
8-Bit MCU with 8k ROM, 384b RAM, ADC, 16-Bit Timers, SPI and SCI Interface, 44-Pin TQFP, Industrial; Note: Pins 2-6, 15-17 and 31 are External Interrupt (EI) pins.; Published: 26-May-2004; LatestRevisionDate: 13-Apr-2006; LatestRevisionNote: IPC-7351 Footprint Added.; DatasheetVersion: rev2.5, Apr-2003; PackageVersion: Oct-2003; PackageReference: TQFP44; Publisher: Altium Limited; PackageDescription: 44-Pin Thin Plastic Quad Flat Pack 0.8 mm Pitch; ComponentLink1Description: Manufacturer Link; ComponentLink1URL: http://www.st.com/; ComponentLink2Description: Datasheet; ComponentLink2URL: http://www.st.com/stonline/products/literature/ds/6816/st72314j2.pdf
footprint TQFP44_N (Thin QFP, 44-Leads, Body 10x10mm, Pitch 0.8mm, IPC Medium Density)
footprint TQFP44_L (Thin QFP, 44-Leads, Body 10x10mm, Pitch 0.8mm, IPC High Density)
footprint TQFP44_M (Thin QFP, 44-Leads, Body 10x10mm, Pitch 0.8mm, IPC Low Density)
3D model ST72314-TQFP44 (44-Pin Thin Plastic Quad Flat Pack 0.8 mm Pitch)
pins: 1 PE1/RDI (io), 2 PB0 (io), 3 PB1 (io), 4 PB2 (io), 5 PB3 (io), 6 PB4 (io), 7 PD0/AIN0 (io), 8 PD1/AIN1 (io), 9 PD2/AIN2 (io), 10 PD3/AIN3 (io), 11 PD4/AIN4 (io), 12 PD5/AIN5 (io), 13 VDDA (power), 14 VSSA (power), 15 PF0/MCO (io), 16 PF1/BEEP (io), 17 PF2 (io), 18 PF4/OCMP1_A (io), 19 PF6 (HS)/ICAP1_A (io), 20 PF7 (HS)/EXTCLK_A (io), 21 VDD_0 (power), 22 VSS_0 (power), 23 PC0/OCMP2_B (io), 24 PC1/OCMP1_B (io), 25 PC2 (HS)/ICAP2_B (io), 26 PC3 (HS)/ICAP1_B (io), 27 PC4/MISO/ISPDATA (io), 28 PC5/MOSI (io), 29 PC6/SCK/ISPCLK (io), 30 PC7/~{SS} (io), 31 PA3 (io), 32 VDD_1 (power), 33 VSS_1 (power), 34 PA4 (HS) (io), 35 PA5 (HS) (io), 36 PA6 (HS) (io), 37 PA7 (HS) (io), 38 ISPSEL (in), 39 ~{RESET} (io), 40 VSS_2 (power), 41 OSC2 (out), 42 OSC1 (in), 43 VDD_2 (power), 44 PE0/TDO (io)

## ST72314J4B1
designator U?
8-Bit MCU with 16k ROM, 512b RAM, ADC, 16-Bit Timers, SPI and SCI Interface, 42-Pin PDIP, Standard; Note: Pins 1, 10-12, 24 and 39-42 are External Interrupt (EI) pins.; Published: 26-May-2004; LatestRevisionDate: 06-Jun-2005; LatestRevisionNote: Stylized 3D Model Added.; DatasheetVersion: rev2.5, Apr-2003; PackageVersion: Oct-2003; PackageReference: PSDIP42; Publisher: Altium Limited; PackageDescription: DIP, Plastic Shrink; 42 Leads; Row Spacing 15.24 mm; Pitch 1.78 mm; ComponentLink1Description: Manufacturer Link; ComponentLink1URL: http://www.st.com/; ComponentLink2Description: Datasheet; ComponentLink2URL: http://www.st.com/stonline/products/literature/ds/6816/st72314j4.pdf
footprint PSDIP42 (DIP, Plastic Shrink; 42 Leads; Row Spacing 15.24 mm; Pitch 1.78 mm)
3D model PSDIP42 (DIP, Plastic Shrink; 42 Leads; Row Spacing 15.24 mm; Pitch 1.78 mm)
pins: 1 PB4 (io), 2 PD0/AIN0 (io), 3 PD1/AIN1 (io), 4 PD2/AIN2 (io), 5 PD3/AIN3 (io), 6 PD4/AIN4 (io), 7 PD5/AIN5 (io), 8 VDDA (power), 9 VSSA (power), 10 PF0/MCO (io), 11 PF1/BEEP (io), 12 PF2 (io), 13 PF4/OCMP1_A (io), 14 PF6 (HS)/ICAP1_A (io), 15 PF7 (HS)/EXTCLK_A (io), 16 PC0/OCMP2_B (io), 17 PC1/OCMP1_B (io), 18 PC2 (HS)/ICAP2_B (io), 19 PC3 (HS)/ICAP1_B (io), 20 PC4/MISO/ISPDATA (io), 21 PC5/MOSI (io), 22 PC6/SCK/ISPCLK (io), 23 PC7/~{SS} (io), 24 PA3 (io), 25 VDD_1 (power), 26 VSS_1 (power), 27 PA4 (HS) (io), 28 PA5 (HS) (io), 29 PA6 (HS) (io), 30 PA7 (HS) (io), 31 ISPSEL (in), 32 ~{RESET} (io), 33 VSS_2 (power), 34 OSC2 (out), 35 OSC1 (in), 36 VDD_2 (power), 37 PE0/TDO (io), 38 PE1/RDI (io), 39 PB0 (io), 40 PB1 (io), 41 PB2 (io), 42 PB3 (io)

## ST72314J4B3
designator U?
8-Bit MCU with 16k ROM, 512b RAM, ADC, 16-Bit Timers, SPI and SCI Interface, 42-Pin PDIP, Automotive; Note: Pins 1, 10-12, 24 and 39-42 are External Interrupt (EI) pins.; Published: 26-May-2004; LatestRevisionDate: 06-Jun-2005; LatestRevisionNote: Stylized 3D Model Added.; DatasheetVersion: rev2.5, Apr-2003; PackageVersion: Oct-2003; PackageReference: PSDIP42; Publisher: Altium Limited; PackageDescription: DIP, Plastic Shrink; 42 Leads; Row Spacing 15.24 mm; Pitch 1.78 mm; ComponentLink1Description: Manufacturer Link; ComponentLink1URL: http://www.st.com/; ComponentLink2Description: Datasheet; ComponentLink2URL: http://www.st.com/stonline/products/literature/ds/6816/st72314j4.pdf
footprint PSDIP42 (DIP, Plastic Shrink; 42 Leads; Row Spacing 15.24 mm; Pitch 1.78 mm)
3D model PSDIP42 (DIP, Plastic Shrink; 42 Leads; Row Spacing 15.24 mm; Pitch 1.78 mm)
pins: 1 PB4 (io), 2 PD0/AIN0 (io), 3 PD1/AIN1 (io), 4 PD2/AIN2 (io), 5 PD3/AIN3 (io), 6 PD4/AIN4 (io), 7 PD5/AIN5 (io), 8 VDDA (power), 9 VSSA (power), 10 PF0/MCO (io), 11 PF1/BEEP (io), 12 PF2 (io), 13 PF4/OCMP1_A (io), 14 PF6 (HS)/ICAP1_A (io), 15 PF7 (HS)/EXTCLK_A (io), 16 PC0/OCMP2_B (io), 17 PC1/OCMP1_B (io), 18 PC2 (HS)/ICAP2_B (io), 19 PC3 (HS)/ICAP1_B (io), 20 PC4/MISO/ISPDATA (io), 21 PC5/MOSI (io), 22 PC6/SCK/ISPCLK (io), 23 PC7/~{SS} (io), 24 PA3 (io), 25 VDD_1 (power), 26 VSS_1 (power), 27 PA4 (HS) (io), 28 PA5 (HS) (io), 29 PA6 (HS) (io), 30 PA7 (HS) (io), 31 ISPSEL (in), 32 ~{RESET} (io), 33 VSS_2 (power), 34 OSC2 (out), 35 OSC1 (in), 36 VDD_2 (power), 37 PE0/TDO (io), 38 PE1/RDI (io), 39 PB0 (io), 40 PB1 (io), 41 PB2 (io), 42 PB3 (io)

## ST72314J4B6
designator U?
8-Bit MCU with 16k ROM, 512b RAM, ADC, 16-Bit Timers, SPI and SCI Interface, 42-Pin PDIP, Industrial; Note: Pins 1, 10-12, 24 and 39-42 are External Interrupt (EI) pins.; Published: 26-May-2004; LatestRevisionDate: 06-Jun-2005; LatestRevisionNote: Stylized 3D Model Added.; DatasheetVersion: rev2.5, Apr-2003; PackageVersion: Oct-2003; PackageReference: PSDIP42; Publisher: Altium Limited; PackageDescription: DIP, Plastic Shrink; 42 Leads; Row Spacing 15.24 mm; Pitch 1.78 mm; ComponentLink1Description: Manufacturer Link; ComponentLink1URL: http://www.st.com/; ComponentLink2Description: Datasheet; ComponentLink2URL: http://www.st.com/stonline/products/literature/ds/6816/st72314j4.pdf
footprint PSDIP42 (DIP, Plastic Shrink; 42 Leads; Row Spacing 15.24 mm; Pitch 1.78 mm)
3D model PSDIP42 (DIP, Plastic Shrink; 42 Leads; Row Spacing 15.24 mm; Pitch 1.78 mm)
pins: 1 PB4 (io), 2 PD0/AIN0 (io), 3 PD1/AIN1 (io), 4 PD2/AIN2 (io), 5 PD3/AIN3 (io), 6 PD4/AIN4 (io), 7 PD5/AIN5 (io), 8 VDDA (power), 9 VSSA (power), 10 PF0/MCO (io), 11 PF1/BEEP (io), 12 PF2 (io), 13 PF4/OCMP1_A (io), 14 PF6 (HS)/ICAP1_A (io), 15 PF7 (HS)/EXTCLK_A (io), 16 PC0/OCMP2_B (io), 17 PC1/OCMP1_B (io), 18 PC2 (HS)/ICAP2_B (io), 19 PC3 (HS)/ICAP1_B (io), 20 PC4/MISO/ISPDATA (io), 21 PC5/MOSI (io), 22 PC6/SCK/ISPCLK (io), 23 PC7/~{SS} (io), 24 PA3 (io), 25 VDD_1 (power), 26 VSS_1 (power), 27 PA4 (HS) (io), 28 PA5 (HS) (io), 29 PA6 (HS) (io), 30 PA7 (HS) (io), 31 ISPSEL (in), 32 ~{RESET} (io), 33 VSS_2 (power), 34 OSC2 (out), 35 OSC1 (in), 36 VDD_2 (power), 37 PE0/TDO (io), 38 PE1/RDI (io), 39 PB0 (io), 40 PB1 (io), 41 PB2 (io), 42 PB3 (io)

## ST72314J4T1
designator U?
8-Bit MCU with 16k ROM, 512b RAM, ADC, 16-Bit Timers, SPI and SCI Interface, 44-Pin TQFP, Standard; Note: Pins 2-6, 15-17 and 31 are External Interrupt (EI) pins.; Published: 26-May-2004; LatestRevisionDate: 13-Apr-2006; LatestRevisionNote: IPC-7351 Footprint Added.; DatasheetVersion: rev2.5, Apr-2003; PackageVersion: Oct-2003; PackageReference: TQFP44; Publisher: Altium Limited; PackageDescription: 44-Pin Thin Plastic Quad Flat Pack 0.8 mm Pitch; ComponentLink1Description: Manufacturer Link; ComponentLink1URL: http://www.st.com/; ComponentLink2Description: Datasheet; ComponentLink2URL: http://www.st.com/stonline/products/literature/ds/6816/st72314j4.pdf
footprint TQFP44_N (Thin QFP, 44-Leads, Body 10x10mm, Pitch 0.8mm, IPC Medium Density)
footprint TQFP44_L (Thin QFP, 44-Leads, Body 10x10mm, Pitch 0.8mm, IPC High Density)
footprint TQFP44_M (Thin QFP, 44-Leads, Body 10x10mm, Pitch 0.8mm, IPC Low Density)
3D model ST72314-TQFP44 (44-Pin Thin Plastic Quad Flat Pack 0.8 mm Pitch)
pins: 1 PE1/RDI (io), 2 PB0 (io), 3 PB1 (io), 4 PB2 (io), 5 PB3 (io), 6 PB4 (io), 7 PD0/AIN0 (io), 8 PD1/AIN1 (io), 9 PD2/AIN2 (io), 10 PD3/AIN3 (io), 11 PD4/AIN4 (io), 12 PD5/AIN5 (io), 13 VDDA (power), 14 VSSA (power), 15 PF0/MCO (io), 16 PF1/BEEP (io), 17 PF2 (io), 18 PF4/OCMP1_A (io), 19 PF6 (HS)/ICAP1_A (io), 20 PF7 (HS)/EXTCLK_A (io), 21 VDD_0 (power), 22 VSS_0 (power), 23 PC0/OCMP2_B (io), 24 PC1/OCMP1_B (io), 25 PC2 (HS)/ICAP2_B (io), 26 PC3 (HS)/ICAP1_B (io), 27 PC4/MISO/ISPDATA (io), 28 PC5/MOSI (io), 29 PC6/SCK/ISPCLK (io), 30 PC7/~{SS} (io), 31 PA3 (io), 32 VDD_1 (power), 33 VSS_1 (power), 34 PA4 (HS) (io), 35 PA5 (HS) (io), 36 PA6 (HS) (io), 37 PA7 (HS) (io), 38 ISPSEL (in), 39 ~{RESET} (io), 40 VSS_2 (power), 41 OSC2 (out), 42 OSC1 (in), 43 VDD_2 (power), 44 PE0/TDO (io)

## ST72314J4T3
designator U?
8-Bit MCU with 16k ROM, 512b RAM, ADC, 16-Bit Timers, SPI and SCI Interface, 44-Pin TQFP, Automotive; Note: Pins 2-6, 15-17 and 31 are External Interrupt (EI) pins.; Published: 26-May-2004; LatestRevisionDate: 13-Apr-2006; LatestRevisionNote: IPC-7351 Footprint Added.; DatasheetVersion: rev2.5, Apr-2003; PackageVersion: Oct-2003; PackageReference: TQFP44; Publisher: Altium Limited; PackageDescription: 44-Pin Thin Plastic Quad Flat Pack 0.8 mm Pitch; ComponentLink1Description: Manufacturer Link; ComponentLink1URL: http://www.st.com/; ComponentLink2Description: Datasheet; ComponentLink2URL: http://www.st.com/stonline/products/literature/ds/6816/st72314j4.pdf
footprint TQFP44_N (Thin QFP, 44-Leads, Body 10x10mm, Pitch 0.8mm, IPC Medium Density)
footprint TQFP44_L (Thin QFP, 44-Leads, Body 10x10mm, Pitch 0.8mm, IPC High Density)
footprint TQFP44_M (Thin QFP, 44-Leads, Body 10x10mm, Pitch 0.8mm, IPC Low Density)
3D model ST72314-TQFP44 (44-Pin Thin Plastic Quad Flat Pack 0.8 mm Pitch)
pins: 1 PE1/RDI (io), 2 PB0 (io), 3 PB1 (io), 4 PB2 (io), 5 PB3 (io), 6 PB4 (io), 7 PD0/AIN0 (io), 8 PD1/AIN1 (io), 9 PD2/AIN2 (io), 10 PD3/AIN3 (io), 11 PD4/AIN4 (io), 12 PD5/AIN5 (io), 13 VDDA (power), 14 VSSA (power), 15 PF0/MCO (io), 16 PF1/BEEP (io), 17 PF2 (io), 18 PF4/OCMP1_A (io), 19 PF6 (HS)/ICAP1_A (io), 20 PF7 (HS)/EXTCLK_A (io), 21 VDD_0 (power), 22 VSS_0 (power), 23 PC0/OCMP2_B (io), 24 PC1/OCMP1_B (io), 25 PC2 (HS)/ICAP2_B (io), 26 PC3 (HS)/ICAP1_B (io), 27 PC4/MISO/ISPDATA (io), 28 PC5/MOSI (io), 29 PC6/SCK/ISPCLK (io), 30 PC7/~{SS} (io), 31 PA3 (io), 32 VDD_1 (power), 33 VSS_1 (power), 34 PA4 (HS) (io), 35 PA5 (HS) (io), 36 PA6 (HS) (io), 37 PA7 (HS) (io), 38 ISPSEL (in), 39 ~{RESET} (io), 40 VSS_2 (power), 41 OSC2 (out), 42 OSC1 (in), 43 VDD_2 (power), 44 PE0/TDO (io)

## ST72314J4T6
designator U?
8-Bit MCU with 16k ROM, 512b RAM, ADC, 16-Bit Timers, SPI and SCI Interface, 44-Pin TQFP, Industrial; Note: Pins 2-6, 15-17 and 31 are External Interrupt (EI) pins.; Published: 26-May-2004; LatestRevisionDate: 13-Apr-2006; LatestRevisionNote: IPC-7351 Footprint Added.; DatasheetVersion: rev2.5, Apr-2003; PackageVersion: Oct-2003; PackageReference: TQFP44; Publisher: Altium Limited; PackageDescription: 44-Pin Thin Plastic Quad Flat Pack 0.8 mm Pitch; ComponentLink1Description: Manufacturer Link; ComponentLink1URL: http://www.st.com/; ComponentLink2Description: Datasheet; ComponentLink2URL: http://www.st.com/stonline/products/literature/ds/6816/st72314j4.pdf
footprint TQFP44_N (Thin QFP, 44-Leads, Body 10x10mm, Pitch 0.8mm, IPC Medium Density)
footprint TQFP44_L (Thin QFP, 44-Leads, Body 10x10mm, Pitch 0.8mm, IPC High Density)
footprint TQFP44_M (Thin QFP, 44-Leads, Body 10x10mm, Pitch 0.8mm, IPC Low Density)
3D model ST72314-TQFP44 (44-Pin Thin Plastic Quad Flat Pack 0.8 mm Pitch)
pins: 1 PE1/RDI (io), 2 PB0 (io), 3 PB1 (io), 4 PB2 (io), 5 PB3 (io), 6 PB4 (io), 7 PD0/AIN0 (io), 8 PD1/AIN1 (io), 9 PD2/AIN2 (io), 10 PD3/AIN3 (io), 11 PD4/AIN4 (io), 12 PD5/AIN5 (io), 13 VDDA (power), 14 VSSA (power), 15 PF0/MCO (io), 16 PF1/BEEP (io), 17 PF2 (io), 18 PF4/OCMP1_A (io), 19 PF6 (HS)/ICAP1_A (io), 20 PF7 (HS)/EXTCLK_A (io), 21 VDD_0 (power), 22 VSS_0 (power), 23 PC0/OCMP2_B (io), 24 PC1/OCMP1_B (io), 25 PC2 (HS)/ICAP2_B (io), 26 PC3 (HS)/ICAP1_B (io), 27 PC4/MISO/ISPDATA (io), 28 PC5/MOSI (io), 29 PC6/SCK/ISPCLK (io), 30 PC7/~{SS} (io), 31 PA3 (io), 32 VDD_1 (power), 33 VSS_1 (power), 34 PA4 (HS) (io), 35 PA5 (HS) (io), 36 PA6 (HS) (io), 37 PA7 (HS) (io), 38 ISPSEL (in), 39 ~{RESET} (io), 40 VSS_2 (power), 41 OSC2 (out), 42 OSC1 (in), 43 VDD_2 (power), 44 PE0/TDO (io)

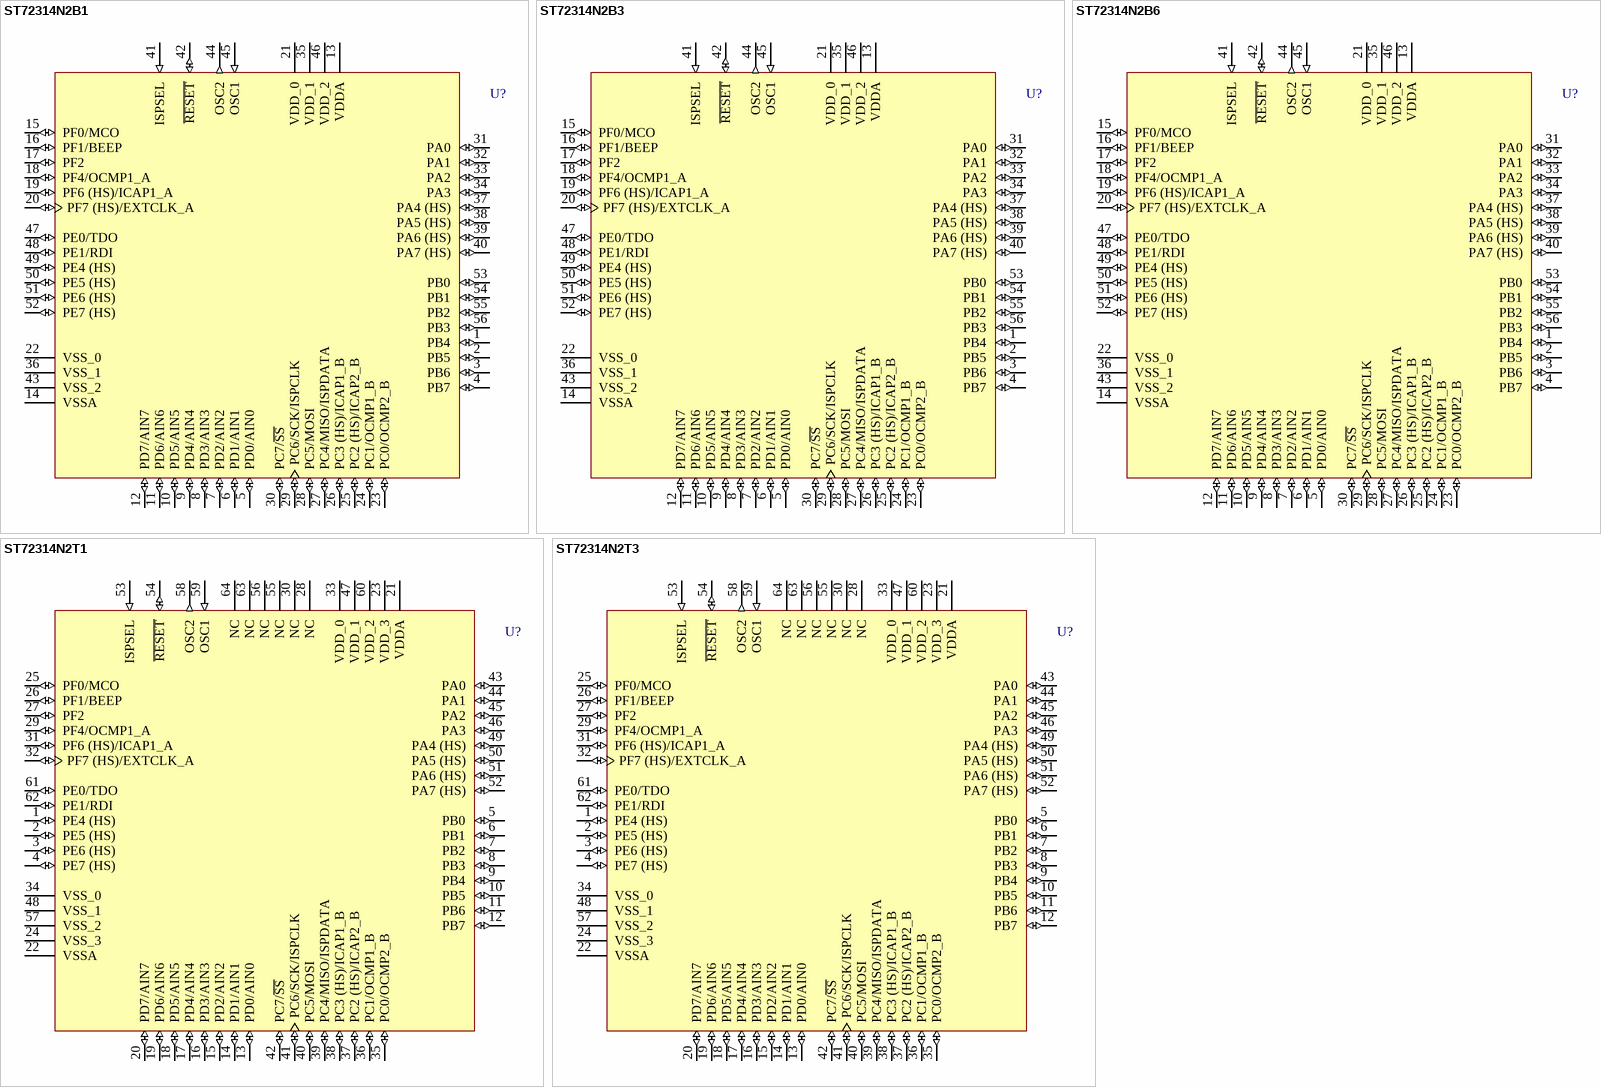
[diagram p107: symbols ST72314N2B1 to ST72314N2T3]

## ST72314N2B1
designator U?
8-Bit MCU with 8k ROM, 384b RAM, ADC, 16-Bit Timers, SPI and SCI Interface, 56-Pin PDIP, Standard; Note: Pins 1-4, 15-17, 31-34 and 53-56 are External Interrupt (EI) pins.; Published: 26-May-2004; LatestRevisionDate: 06-Jun-2005; LatestRevisionNote: Stylized 3D Model Added.; DatasheetVersion: rev2.5, Apr-2003; PackageVersion: Jan-2002; PackageReference: PSDIP56; Publisher: Altium Limited; PackageDescription: DIP, Plastic Shrink; 56 Leads; Row Spacing 15.24 mm; Pitch 1.78 mm; ComponentLink1Description: Manufacturer Link; ComponentLink1URL: http://www.st.com/; ComponentLink2Description: Datasheet; ComponentLink2URL: http://www.st.com/stonline/products/literature/ds/6816/st72314n2.pdf
footprint PSDIP56 (DIP, Plastic Shrink; 56 Leads; Row Spacing 15.24 mm; Pitch 1.78 mm)
3D model PSDIP56 (DIP, Plastic Shrink; 56 Leads; Row Spacing 15.24 mm; Pitch 1.78 mm)
pins: 1 PB4 (io), 2 PB5 (io), 3 PB6 (io), 4 PB7 (io), 5 PD0/AIN0 (io), 6 PD1/AIN1 (io), 7 PD2/AIN2 (io), 8 PD3/AIN3 (io), 9 PD4/AIN4 (io), 10 PD5/AIN5 (io), 11 PD6/AIN6 (io), 12 PD7/AIN7 (io), 13 VDDA (power), 14 VSSA (power), 15 PF0/MCO (io), 16 PF1/BEEP (io), 17 PF2 (io), 18 PF4/OCMP1_A (io), 19 PF6 (HS)/ICAP1_A (io), 20 PF7 (HS)/EXTCLK_A (io), 21 VDD_0 (power), 22 VSS_0 (power), 23 PC0/OCMP2_B (io), 24 PC1/OCMP1_B (io), 25 PC2 (HS)/ICAP2_B (io), 26 PC3 (HS)/ICAP1_B (io), 27 PC4/MISO/ISPDATA (io), 28 PC5/MOSI (io), 29 PC6/SCK/ISPCLK (io), 30 PC7/~{SS} (io), 31 PA0 (io), 32 PA1 (io), 33 PA2 (io), 34 PA3 (io), 35 VDD_1 (power), 36 VSS_1 (power), 37 PA4 (HS) (io), 38 PA5 (HS) (io), 39 PA6 (HS) (io), 40 PA7 (HS) (io), 41 ISPSEL (in), 42 ~{RESET} (io), 43 VSS_2 (power), 44 OSC2 (out), 45 OSC1 (in), 46 VDD_2 (power), 47 PE0/TDO (io), 48 PE1/RDI (io), 49 PE4 (HS) (io), 50 PE5 (HS) (io), 51 PE6 (HS) (io), 52 PE7 (HS) (io), 53 PB0 (io), 54 PB1 (io), 55 PB2 (io), 56 PB3 (io)

## ST72314N2B3
designator U?
8-Bit MCU with 8k ROM, 384b RAM, ADC, 16-Bit Timers, SPI and SCI Interface, 56-Pin PDIP, Automotive; Note: Pins 1-4, 15-17, 31-34 and 53-56 are External Interrupt (EI) pins.; Published: 26-May-2004; LatestRevisionDate: 06-Jun-2005; LatestRevisionNote: Stylized 3D Model Added.; DatasheetVersion: rev2.5, Apr-2003; PackageVersion: Jan-2002; PackageReference: PSDIP56; Publisher: Altium Limited; PackageDescription: DIP, Plastic Shrink; 56 Leads; Row Spacing 15.24 mm; Pitch 1.78 mm; ComponentLink1Description: Manufacturer Link; ComponentLink1URL: http://www.st.com/; ComponentLink2Description: Datasheet; ComponentLink2URL: http://www.st.com/stonline/products/literature/ds/6816/st72314n2.pdf
footprint PSDIP56 (DIP, Plastic Shrink; 56 Leads; Row Spacing 15.24 mm; Pitch 1.78 mm)
3D model PSDIP56 (DIP, Plastic Shrink; 56 Leads; Row Spacing 15.24 mm; Pitch 1.78 mm)
pins: 1 PB4 (io), 2 PB5 (io), 3 PB6 (io), 4 PB7 (io), 5 PD0/AIN0 (io), 6 PD1/AIN1 (io), 7 PD2/AIN2 (io), 8 PD3/AIN3 (io), 9 PD4/AIN4 (io), 10 PD5/AIN5 (io), 11 PD6/AIN6 (io), 12 PD7/AIN7 (io), 13 VDDA (power), 14 VSSA (power), 15 PF0/MCO (io), 16 PF1/BEEP (io), 17 PF2 (io), 18 PF4/OCMP1_A (io), 19 PF6 (HS)/ICAP1_A (io), 20 PF7 (HS)/EXTCLK_A (io), 21 VDD_0 (power), 22 VSS_0 (power), 23 PC0/OCMP2_B (io), 24 PC1/OCMP1_B (io), 25 PC2 (HS)/ICAP2_B (io), 26 PC3 (HS)/ICAP1_B (io), 27 PC4/MISO/ISPDATA (io), 28 PC5/MOSI (io), 29 PC6/SCK/ISPCLK (io), 30 PC7/~{SS} (io), 31 PA0 (io), 32 PA1 (io), 33 PA2 (io), 34 PA3 (io), 35 VDD_1 (power), 36 VSS_1 (power), 37 PA4 (HS) (io), 38 PA5 (HS) (io), 39 PA6 (HS) (io), 40 PA7 (HS) (io), 41 ISPSEL (in), 42 ~{RESET} (io), 43 VSS_2 (power), 44 OSC2 (out), 45 OSC1 (in), 46 VDD_2 (power), 47 PE0/TDO (io), 48 PE1/RDI (io), 49 PE4 (HS) (io), 50 PE5 (HS) (io), 51 PE6 (HS) (io), 52 PE7 (HS) (io), 53 PB0 (io), 54 PB1 (io), 55 PB2 (io), 56 PB3 (io)

## ST72314N2B6
designator U?
8-Bit MCU with 8k ROM, 384b RAM, ADC, 16-Bit Timers, SPI and SCI Interface, 56-Pin PDIP, Industrial; Note: Pins 1-4, 15-17, 31-34 and 53-56 are External Interrupt (EI) pins.; Published: 26-May-2004; LatestRevisionDate: 06-Jun-2005; LatestRevisionNote: Stylized 3D Model Added.; DatasheetVersion: rev2.5, Apr-2003; PackageVersion: Jan-2002; PackageReference: PSDIP56; Publisher: Altium Limited; PackageDescription: DIP, Plastic Shrink; 56 Leads; Row Spacing 15.24 mm; Pitch 1.78 mm; ComponentLink1Description: Manufacturer Link; ComponentLink1URL: http://www.st.com/; ComponentLink2Description: Datasheet; ComponentLink2URL: http://www.st.com/stonline/products/literature/ds/6816/st72314n2.pdf
footprint PSDIP56 (DIP, Plastic Shrink; 56 Leads; Row Spacing 15.24 mm; Pitch 1.78 mm)
3D model PSDIP56 (DIP, Plastic Shrink; 56 Leads; Row Spacing 15.24 mm; Pitch 1.78 mm)
pins: 1 PB4 (io), 2 PB5 (io), 3 PB6 (io), 4 PB7 (io), 5 PD0/AIN0 (io), 6 PD1/AIN1 (io), 7 PD2/AIN2 (io), 8 PD3/AIN3 (io), 9 PD4/AIN4 (io), 10 PD5/AIN5 (io), 11 PD6/AIN6 (io), 12 PD7/AIN7 (io), 13 VDDA (power), 14 VSSA (power), 15 PF0/MCO (io), 16 PF1/BEEP (io), 17 PF2 (io), 18 PF4/OCMP1_A (io), 19 PF6 (HS)/ICAP1_A (io), 20 PF7 (HS)/EXTCLK_A (io), 21 VDD_0 (power), 22 VSS_0 (power), 23 PC0/OCMP2_B (io), 24 PC1/OCMP1_B (io), 25 PC2 (HS)/ICAP2_B (io), 26 PC3 (HS)/ICAP1_B (io), 27 PC4/MISO/ISPDATA (io), 28 PC5/MOSI (io), 29 PC6/SCK/ISPCLK (io), 30 PC7/~{SS} (io), 31 PA0 (io), 32 PA1 (io), 33 PA2 (io), 34 PA3 (io), 35 VDD_1 (power), 36 VSS_1 (power), 37 PA4 (HS) (io), 38 PA5 (HS) (io), 39 PA6 (HS) (io), 40 PA7 (HS) (io), 41 ISPSEL (in), 42 ~{RESET} (io), 43 VSS_2 (power), 44 OSC2 (out), 45 OSC1 (in), 46 VDD_2 (power), 47 PE0/TDO (io), 48 PE1/RDI (io), 49 PE4 (HS) (io), 50 PE5 (HS) (io), 51 PE6 (HS) (io), 52 PE7 (HS) (io), 53 PB0 (io), 54 PB1 (io), 55 PB2 (io), 56 PB3 (io)